# Altium schematic symbol library Sheye-Resistor.SchLib: 584 symbols (part 2 of 3)
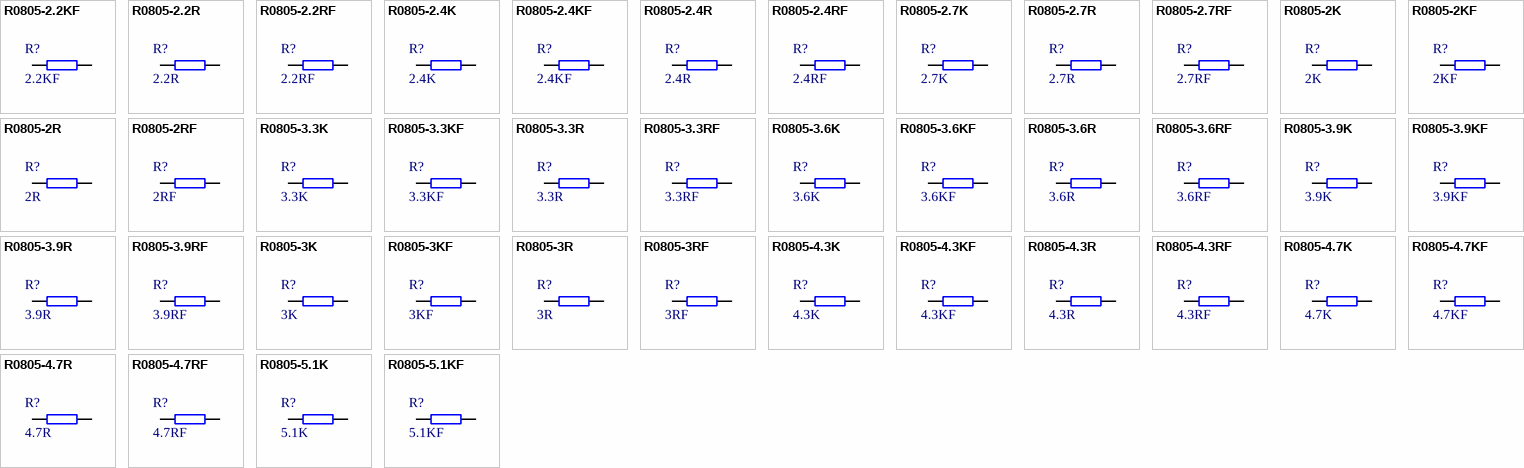
[diagram p15: symbols R0805-2.2KF to R0805-5.1KF]

## R0805-2.4R
designator R?, comment 2.4R
贴片电阻-通用; 生产商: 厚声 国巨; 规格型号: 2.4R±5%_1/8W_±200ppm_R0805; 货品编码: 无样品无编码; 备注: *; 供应商: *
footprint R0805 (Footprint not found)
pins: 1, 2

## R0805-2.4RF
designator R?, comment 2.4RF
贴片电阻-通用; 生产商: 厚声 国巨; 规格型号: 2.4R±1%_1/8W_±200ppm_R0805; 货品编码: 无样品无编码; 备注: *; 供应商: *
footprint R0805 (Footprint not found)
pins: 1, 2

## R0805-2.7K
designator R?, comment 2.7K
贴片电阻-通用; 生产商: 厚声 国巨; 规格型号: 2.7K±5%_1/8W_±100ppm_R0805; 货品编码: 311028; 备注: *; 供应商: *
footprint R0805 (Footprint not found)
pins: 1, 2

## R0805-2.7R
designator R?, comment 2.7R
贴片电阻-通用; 生产商: 厚声 国巨; 规格型号: 2.7R±5%_1/8W_±200ppm_R0805; 货品编码: 无样品无编码; 备注: *; 供应商: *
footprint R0805 (Footprint not found)
pins: 1, 2

## R0805-2.7RF
designator R?, comment 2.7RF
贴片电阻-通用; 生产商: 厚声 国巨; 规格型号: 2.7R±1%_1/8W_±200ppm_R0805; 货品编码: 无样品无编码; 备注: *; 供应商: *
footprint R0805 (Footprint not found)
pins: 1, 2

## R0805-2K
designator R?, comment 2K
贴片电阻-通用; 生产商: 厚声 国巨; 规格型号: 2K±5%_1/8W_±100ppm_R0805; 货品编码: 311025; 备注: *; 供应商: *
footprint R0805 (Footprint not found)
pins: 1, 2

## R0805-2KF
designator R?, comment 2KF
贴片电阻-通用; 生产商: 厚声 国巨; 规格型号: 2K±1%_1/8W_±100ppm_R0805; 货品编码: 311026; 备注: *; 供应商: *
footprint R0805 (Footprint not found)
pins: 1, 2

## R0805-2R
designator R?, comment 2R
贴片电阻-通用; 生产商: 厚声 国巨; 规格型号: 2R±5%_1/8W_±200ppm_R0805; 货品编码: 无样品无编码; 备注: *; 供应商: *
footprint R0805 (Footprint not found)
pins: 1, 2

## R0805-2RF
designator R?, comment 2RF
贴片电阻-通用; 生产商: 厚声 国巨; 规格型号: 2R±1%_1/8W_±200ppm_R0805; 货品编码: 无样品无编码; 备注: *; 供应商: *
footprint R0805 (Footprint not found)
pins: 1, 2

## R0805-3.3K
designator R?, comment 3.3K
贴片电阻-通用; 生产商: 厚声 国巨; 规格型号: 3.3K±5%_1/8W_±100ppm_R0805; 货品编码: 311029; 备注: *; 供应商: *
footprint R0805 (Footprint not found)
pins: 1, 2

## R0805-3.3KF
designator R?, comment 3.3KF
贴片电阻-通用; 生产商: 厚声 国巨; 规格型号: 3.3K±1%_1/8W_±100ppm_R0805; 货品编码: 311030; 备注: *; 供应商: *
footprint R0805 (Footprint not found)
pins: 1, 2

## R0805-3.3R
designator R?, comment 3.3R
贴片电阻-通用; 生产商: 厚声 国巨; 规格型号: 3.3R±5%_1/8W_±200ppm_R0805; 货品编码: 311004; 备注: *; 供应商: *
footprint R0805 (Footprint not found)
pins: 1, 2

## R0805-3.3RF
designator R?, comment 3.3RF
贴片电阻-通用; 生产商: 厚声 国巨; 规格型号: 3.3R±1%_1/8W_±200ppm_R0805; 货品编码: 311058; 备注: *; 供应商: *
footprint R0805 (Footprint not found)
pins: 1, 2

## R0805-3.6K
designator R?, comment 3.6K
贴片电阻-通用; 生产商: 厚声 国巨; 规格型号: 3.6K±5%_1/8W_±100ppm_R0805; 货品编码: 无样品无编码; 备注: *; 供应商: *
footprint R0805 (Footprint not found)
pins: 1, 2

## R0805-3.6KF
designator R?, comment 3.6KF
贴片电阻-通用; 生产商: 厚声 国巨; 规格型号: 3.6K±1%_1/8W_±100ppm_R0805; 货品编码: 无样品无编码; 备注: *; 供应商: *
footprint R0805 (Footprint not found)
pins: 1, 2

## R0805-3.6R
designator R?, comment 3.6R
贴片电阻-通用; 生产商: 厚声 国巨; 规格型号: 3.6R±5%_1/8W_±200ppm_R0805; 货品编码: 无样品无编码; 备注: *; 供应商: *
footprint R0805 (Footprint not found)
pins: 1, 2

## R0805-3.6RF
designator R?, comment 3.6RF
贴片电阻-通用; 生产商: 厚声 国巨; 规格型号: 3.6R±1%_1/8W_±200ppm_R0805; 货品编码: 无样品无编码; 备注: *; 供应商: *
footprint R0805 (Footprint not found)
pins: 1, 2

## R0805-3.9K
designator R?, comment 3.9K
贴片电阻-通用; 生产商: 厚声 国巨; 规格型号: 3.9K±5%_1/8W_±100ppm_R0805; 货品编码: 无样品无编码; 备注: *; 供应商: *
footprint R0805 (Footprint not found)
pins: 1, 2

## R0805-3.9KF
designator R?, comment 3.9KF
贴片电阻-通用; 生产商: 厚声 国巨; 规格型号: 3.9K±1%_1/8W_±100ppm_R0805; 货品编码: 无样品无编码; 备注: *; 供应商: *
footprint R0805 (Footprint not found)
pins: 1, 2

## R0805-3.9R
designator R?, comment 3.9R
贴片电阻-通用; 生产商: 厚声 国巨; 规格型号: 3.9R±5%_1/8W_±200ppm_R0805; 货品编码: 无样品无编码; 备注: *; 供应商: *
footprint R0805 (Footprint not found)
pins: 1, 2

## R0805-3.9RF
designator R?, comment 3.9RF
贴片电阻-通用; 生产商: 厚声 国巨; 规格型号: 3.9R±1%_1/8W_±200ppm_R0805; 货品编码: 无样品无编码; 备注: *; 供应商: *
footprint R0805 (Footprint not found)
pins: 1, 2

## R0805-3K
designator R?, comment 3K
贴片电阻-通用; 生产商: 厚声 国巨; 规格型号: 3K±5%_1/8W_±100ppm_R0805; 货品编码: 无样品无编码; 备注: *; 供应商: *
footprint R0805 (Footprint not found)
pins: 1, 2

## R0805-3KF
designator R?, comment 3KF
贴片电阻-通用; 生产商: 厚声 国巨; 规格型号: 3K±1%_1/8W_±100ppm_R0805; 货品编码: 311042; 备注: *; 供应商: *
footprint R0805 (Footprint not found)
pins: 1, 2

## R0805-3R
designator R?, comment 3R
贴片电阻-通用; 生产商: 厚声 国巨; 规格型号: 3R±5%_1/8W_±200ppm_R0805; 货品编码: 无样品无编码; 备注: *; 供应商: *
footprint R0805 (Footprint not found)
pins: 1, 2

## R0805-3RF
designator R?, comment 3RF
贴片电阻-通用; 生产商: 厚声 国巨; 规格型号: 3R±1%_1/8W_±200ppm_R0805; 货品编码: 无样品无编码; 备注: *; 供应商: *
footprint R0805 (Footprint not found)
pins: 1, 2

## R0805-4.3K
designator R?, comment 4.3K
贴片电阻-通用; 生产商: 厚声 国巨; 规格型号: 4.3K±5%_1/8W_±100ppm_R0805; 货品编码: 无样品无编码; 备注: *; 供应商: *
footprint R0805 (Footprint not found)
pins: 1, 2

## R0805-4.3KF
designator R?, comment 4.3KF
贴片电阻-通用; 生产商: 厚声 国巨; 规格型号: 4.3K±1%_1/8W_±100ppm_R0805; 货品编码: 无样品无编码; 备注: *; 供应商: *
footprint R0805 (Footprint not found)
pins: 1, 2

## R0805-4.3R
designator R?, comment 4.3R
贴片电阻-通用; 生产商: 厚声 国巨; 规格型号: 4.3R±5%_1/8W_±200ppm_R0805; 货品编码: 无样品无编码; 备注: *; 供应商: *
footprint R0805 (Footprint not found)
pins: 1, 2

## R0805-4.3RF
designator R?, comment 4.3RF
贴片电阻-通用; 生产商: 厚声 国巨; 规格型号: 4.3R±1%_1/8W_±200ppm_R0805; 货品编码: 无样品无编码; 备注: *; 供应商: *
footprint R0805 (Footprint not found)
pins: 1, 2

## R0805-4.7K
designator R?, comment 4.7K
贴片电阻-通用; 生产商: 厚声 国巨; 规格型号: 4.7K±5%_1/8W_±100ppm_R0805; 货品编码: 311031; 备注: *; 供应商: *
footprint R0805 (Footprint not found)
pins: 1, 2

## R0805-4.7KF
designator R?, comment 4.7KF
贴片电阻-通用; 生产商: 厚声 国巨; 规格型号: 4.7K±1%_1/8W_±100ppm_R0805; 货品编码: 311032; 备注: *; 供应商: *
footprint R0805 (Footprint not found)
pins: 1, 2

## R0805-4.7R
designator R?, comment 4.7R
贴片电阻-通用; 生产商: 厚声 国巨; 规格型号: 4.7R±5%_1/8W_±200ppm_R0805; 货品编码: 无样品无编码; 备注: *; 供应商: *
footprint R0805 (Footprint not found)
pins: 1, 2

## R0805-4.7RF
designator R?, comment 4.7RF
贴片电阻-通用; 生产商: 厚声 国巨; 规格型号: 4.7R±1%_1/8W_±200ppm_R0805; 货品编码: 无样品无编码; 备注: *; 供应商: *
footprint R0805 (Footprint not found)
pins: 1, 2

## R0805-5.1K
designator R?, comment 5.1K
贴片电阻-通用; 生产商: 厚声 国巨; 规格型号: 5.1K±5%_1/8W_±100ppm_R0805; 货品编码: 311033; 备注: *; 供应商: *
footprint R0805 (Footprint not found)
pins: 1, 2

## R0805-5.1KF
designator R?, comment 5.1KF
贴片电阻-通用; 生产商: 厚声 国巨; 规格型号: 5.1K±1%_1/8W_±100ppm_R0805; 货品编码: 311043; 备注: *; 供应商: *
footprint R0805 (Footprint not found)
pins: 1, 2

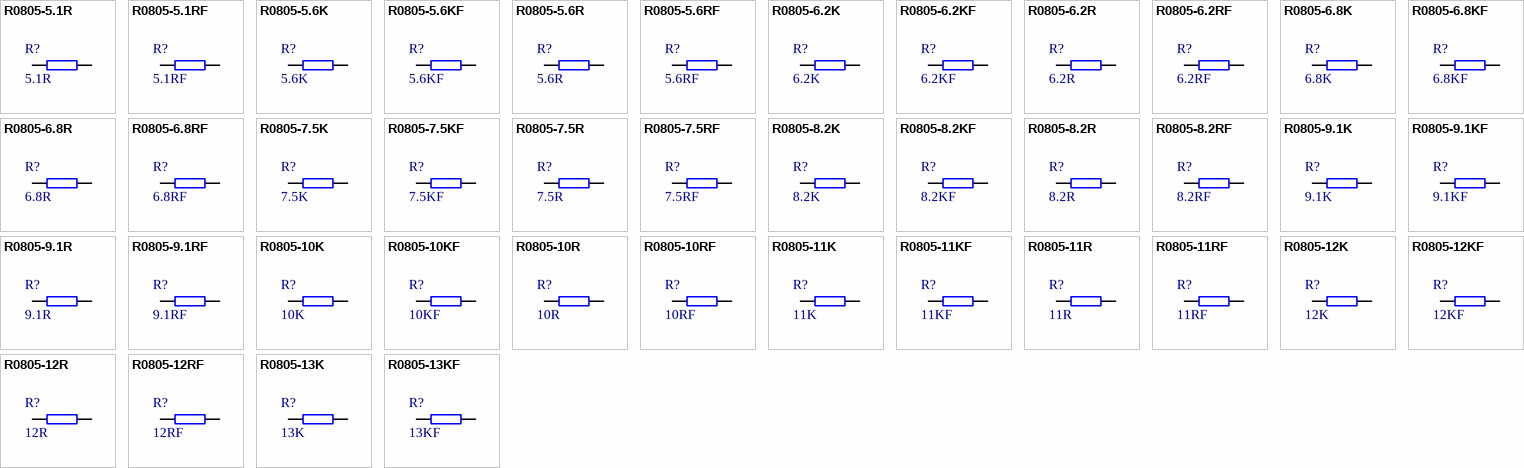
[diagram p7: symbols R0805-5.1R to R0805-13KF]

## R0805-5.1R
designator R?, comment 5.1R
贴片电阻-通用; 生产商: 厚声 国巨; 规格型号: 5.1R±5%_1/8W_±200ppm_R0805; 货品编码: 无样品无编码; 备注: *; 供应商: *
footprint R0805 (Footprint not found)
pins: 1, 2

## R0805-5.1RF
designator R?, comment 5.1RF
贴片电阻-通用; 生产商: 厚声 国巨; 规格型号: 5.1R±1%_1/8W_±200ppm_R0805; 货品编码: 无样品无编码; 备注: *; 供应商: *
footprint R0805 (Footprint not found)
pins: 1, 2

## R0805-5.6K
designator R?, comment 5.6K
贴片电阻-通用; 生产商: 厚声 国巨; 规格型号: 5.6K±5%_1/8W_±100ppm_R0805; 货品编码: 无样品无编码; 备注: *; 供应商: *
footprint R0805 (Footprint not found)
pins: 1, 2

## R0805-5.6KF
designator R?, comment 5.6KF
贴片电阻-通用; 生产商: 厚声 国巨; 规格型号: 5.6K±1%_1/8W_±100ppm_R0805; 货品编码: 无样品无编码; 备注: *; 供应商: *
footprint R0805 (Footprint not found)
pins: 1, 2

## R0805-5.6R
designator R?, comment 5.6R
贴片电阻-通用; 生产商: 厚声 国巨; 规格型号: 5.6R±5%_1/8W_±200ppm_R0805; 货品编码: 无样品无编码; 备注: *; 供应商: *
footprint R0805 (Footprint not found)
pins: 1, 2

## R0805-5.6RF
designator R?, comment 5.6RF
贴片电阻-通用; 生产商: 厚声 国巨; 规格型号: 5.6R±1%_1/8W_±200ppm_R0805; 货品编码: 无样品无编码; 备注: *; 供应商: *
footprint R0805 (Footprint not found)
pins: 1, 2

## R0805-6.2K
designator R?, comment 6.2K
贴片电阻-通用; 生产商: 厚声 国巨; 规格型号: 6.2K±5%_1/8W_±100ppm_R0805; 货品编码: 无样品无编码; 备注: *; 供应商: *
footprint R0805 (Footprint not found)
pins: 1, 2

## R0805-6.2KF
designator R?, comment 6.2KF
贴片电阻-通用; 生产商: 厚声 国巨; 规格型号: 6.2K±1%_1/8W_±100ppm_R0805; 货品编码: 无样品无编码; 备注: *; 供应商: *
footprint R0805 (Footprint not found)
pins: 1, 2

## R0805-6.2R
designator R?, comment 6.2R
贴片电阻-通用; 生产商: 厚声 国巨; 规格型号: 6.2R±5%_1/8W_±200ppm_R0805; 货品编码: 无样品无编码; 备注: *; 供应商: *
footprint R0805 (Footprint not found)
pins: 1, 2

## R0805-6.2RF
designator R?, comment 6.2RF
贴片电阻-通用; 生产商: 厚声 国巨; 规格型号: 6.2R±1%_1/8W_±200ppm_R0805; 货品编码: 无样品无编码; 备注: *; 供应商: *
footprint R0805 (Footprint not found)
pins: 1, 2

## R0805-6.8K
designator R?, comment 6.8K
贴片电阻-通用; 生产商: 厚声 国巨; 规格型号: 6.8K±5%_1/8W_±100ppm_R0805; 货品编码: 无样品无编码; 备注: *; 供应商: *
footprint R0805 (Footprint not found)
pins: 1, 2

## R0805-6.8KF
designator R?, comment 6.8KF
贴片电阻-通用; 生产商: 厚声 国巨; 规格型号: 6.8K±1%_1/8W_±100ppm_R0805; 货品编码: 311044; 备注: *; 供应商: *
footprint R0805 (Footprint not found)
pins: 1, 2

## R0805-6.8R
designator R?, comment 6.8R
贴片电阻-通用; 生产商: 厚声 国巨; 规格型号: 6.8R±5%_1/8W_±200ppm_R0805; 货品编码: 无样品无编码; 备注: *; 供应商: *
footprint R0805 (Footprint not found)
pins: 1, 2

## R0805-6.8RF
designator R?, comment 6.8RF
贴片电阻-通用; 生产商: 厚声 国巨; 规格型号: 6.8R±1%_1/8W_±200ppm_R0805; 货品编码: 311156; 备注: *; 供应商: *
footprint R0805 (Footprint not found)
pins: 1, 2

## R0805-7.5K
designator R?, comment 7.5K
贴片电阻-通用; 生产商: 厚声 国巨; 规格型号: 7.5K±5%_1/8W_±100ppm_R0805; 货品编码: 无样品无编码; 备注: *; 供应商: *
footprint R0805 (Footprint not found)
pins: 1, 2

## R0805-7.5KF
designator R?, comment 7.5KF
贴片电阻-通用; 生产商: 厚声 国巨; 规格型号: 7.5K±1%_1/8W_±100ppm_R0805; 货品编码: 311160; 备注: *; 供应商: *
footprint R0805 (Footprint not found)
pins: 1, 2

## R0805-7.5R
designator R?, comment 7.5R
贴片电阻-通用; 生产商: 厚声 国巨; 规格型号: 7.5R±5%_1/8W_±200ppm_R0805; 货品编码: 无样品无编码; 备注: *; 供应商: *
footprint R0805 (Footprint not found)
pins: 1, 2

## R0805-7.5RF
designator R?, comment 7.5RF
贴片电阻-通用; 生产商: 厚声 国巨; 规格型号: 7.5R±1%_1/8W_±200ppm_R0805; 货品编码: 无样品无编码; 备注: *; 供应商: *
footprint R0805 (Footprint not found)
pins: 1, 2

## R0805-8.2K
designator R?, comment 8.2K
贴片电阻-通用; 生产商: 厚声 国巨; 规格型号: 8.2K±5%_1/8W_±100ppm_R0805; 货品编码: 无样品无编码; 备注: *; 供应商: *
footprint R0805 (Footprint not found)
pins: 1, 2

## R0805-8.2KF
designator R?, comment 8.2KF
贴片电阻-通用; 生产商: 厚声 国巨; 规格型号: 8.2K±1%_1/8W_±100ppm_R0805; 货品编码: 无样品无编码; 备注: *; 供应商: *
footprint R0805 (Footprint not found)
pins: 1, 2

## R0805-8.2R
designator R?, comment 8.2R
贴片电阻-通用; 生产商: 厚声 国巨; 规格型号: 8.2R±5%_1/8W_±200ppm_R0805; 货品编码: 无样品无编码; 备注: *; 供应商: *
footprint R0805 (Footprint not found)
pins: 1, 2

## R0805-8.2RF
designator R?, comment 8.2RF
贴片电阻-通用; 生产商: 厚声 国巨; 规格型号: 8.2R±1%_1/8W_±200ppm_R0805; 货品编码: 无样品无编码; 备注: *; 供应商: *
footprint R0805 (Footprint not found)
pins: 1, 2

## R0805-9.1K
designator R?, comment 9.1K
贴片电阻-通用; 生产商: 厚声 国巨; 规格型号: 9.1K±5%_1/8W_±100ppm_R0805; 货品编码: 无样品无编码; 备注: *; 供应商: *
footprint R0805 (Footprint not found)
pins: 1, 2

## R0805-9.1KF
designator R?, comment 9.1KF
贴片电阻-通用; 生产商: 厚声 国巨; 规格型号: 9.1K±1%_1/8W_±100ppm_R0805; 货品编码: 311035; 备注: *; 供应商: *
footprint R0805 (Footprint not found)
pins: 1, 2

## R0805-9.1R
designator R?, comment 9.1R
贴片电阻-通用; 生产商: 厚声 国巨; 规格型号: 9.1R±5%_1/8W_±200ppm_R0805; 货品编码: 无样品无编码; 备注: *; 供应商: *
footprint R0805 (Footprint not found)
pins: 1, 2

## R0805-9.1RF
designator R?, comment 9.1RF
贴片电阻-通用; 生产商: 厚声 国巨; 规格型号: 9.1R±1%_1/8W_±200ppm_R0805; 货品编码: 无样品无编码; 备注: *; 供应商: *
footprint R0805 (Footprint not found)
pins: 1, 2

## R0805-10K
designator R?, comment 10K
贴片电阻-通用; 生产商: 厚声 国巨; 规格型号: 10K±5%_1/8W_±100ppm_R0805; 货品编码: 311037; 备注: *; 供应商: *
footprint R0805 (Footprint not found)
pins: 1, 2

## R0805-10KF
designator R?, comment 10KF
贴片电阻-通用; 生产商: 厚声 国巨; 规格型号: 10K±1%_1/8W_±100ppm_R0805; 货品编码: 311045; 备注: *; 供应商: *
footprint R0805 (Footprint not found)
pins: 1, 2

## R0805-10R
designator R?, comment 10R
贴片电阻-通用; 生产商: 厚声 国巨; 规格型号: 10R±5%_1/8W_±200ppm_R0805; 货品编码: 311006; 备注: *; 供应商: *
footprint R0805 (Footprint not found)
pins: 1, 2

## R0805-10RF
designator R?, comment 10RF
贴片电阻-通用; 生产商: 厚声 国巨; 规格型号: 10R±1%_1/8W_±200ppm_R0805; 货品编码: 无样品无编码; 备注: *; 供应商: *
footprint R0805 (Footprint not found)
pins: 1, 2

## R0805-11K
designator R?, comment 11K
贴片电阻-通用; 生产商: 厚声 国巨; 规格型号: 11K±5%_1/8W_±100ppm_R0805; 货品编码: 无样品无编码; 备注: *; 供应商: *
footprint R0805 (Footprint not found)
pins: 1, 2

## R0805-11KF
designator R?, comment 11KF
贴片电阻-通用; 生产商: 厚声 国巨; 规格型号: 11K±1%_1/8W_±100ppm_R0805; 货品编码: 无样品无编码; 备注: *; 供应商: *
footprint R0805 (Footprint not found)
pins: 1, 2

## R0805-11R
designator R?, comment 11R
贴片电阻-通用; 生产商: 厚声 国巨; 规格型号: 11R±5%_1/8W_±100ppm_R0805; 货品编码: 无样品无编码; 备注: *; 供应商: *
footprint R0805 (Footprint not found)
pins: 1, 2

## R0805-11RF
designator R?, comment 11RF
贴片电阻-通用; 生产商: 厚声 国巨; 规格型号: 11R±1%_1/8W_±100ppm_R0805; 货品编码: 无样品无编码; 备注: *; 供应商: *
footprint R0805 (Footprint not found)
pins: 1, 2

## R0805-12K
designator R?, comment 12K
贴片电阻-通用; 生产商: 厚声 国巨; 规格型号: 12K±5%_1/8W_±100ppm_R0805; 货品编码: 无样品无编码; 备注: *; 供应商: *
footprint R0805 (Footprint not found)
pins: 1, 2

## R0805-12KF
designator R?, comment 12KF
贴片电阻-通用; 生产商: 厚声 国巨; 规格型号: 12K±1%_1/8W_±100ppm_R0805; 货品编码: 无样品无编码; 备注: *; 供应商: *
footprint R0805 (Footprint not found)
pins: 1, 2

## R0805-12R
designator R?, comment 12R
贴片电阻-通用; 生产商: 厚声 国巨; 规格型号: 12R±5%_1/8W_±100ppm_R0805; 货品编码: 无样品无编码; 备注: *; 供应商: *
footprint R0805 (Footprint not found)
pins: 1, 2

## R0805-12RF
designator R?, comment 12RF
贴片电阻-通用; 生产商: 厚声 国巨; 规格型号: 12R±1%_1/8W_±100ppm_R0805; 货品编码: 无样品无编码; 备注: *; 供应商: *
footprint R0805 (Footprint not found)
pins: 1, 2

## R0805-13K
designator R?, comment 13K
贴片电阻-通用; 生产商: 厚声 国巨; 规格型号: 13K±5%_1/8W_±100ppm_R0805; 货品编码: 无样品无编码; 备注: *; 供应商: *
footprint R0805 (Footprint not found)
pins: 1, 2

## R0805-13KF
designator R?, comment 13KF
贴片电阻-通用; 生产商: 厚声 国巨; 规格型号: 13K±1%_1/8W_±100ppm_R0805; 货品编码: 311036; 备注: *; 供应商: *
footprint R0805 (Footprint not found)
pins: 1, 2

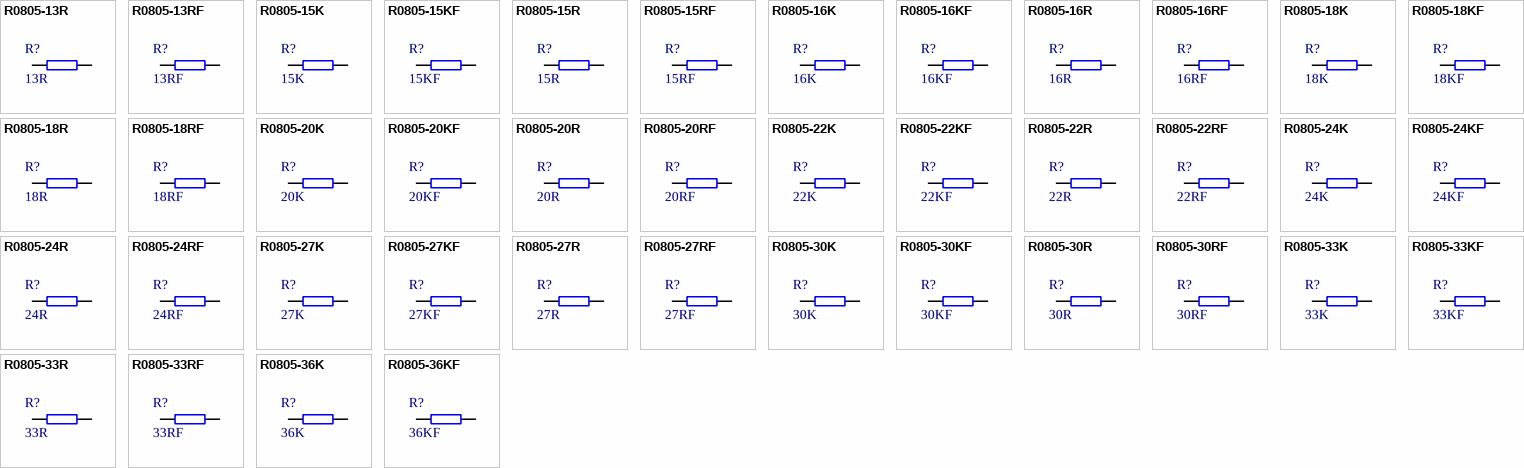
[diagram p8: symbols R0805-13R to R0805-36KF]

## R0805-13R
designator R?, comment 13R
贴片电阻-通用; 生产商: 厚声 国巨; 规格型号: 13R±5%_1/8W_±100ppm_R0805; 货品编码: 无样品无编码; 备注: *; 供应商: *
footprint R0805 (Footprint not found)
pins: 1, 2

## R0805-13RF
designator R?, comment 13RF
贴片电阻-通用; 生产商: 厚声 国巨; 规格型号: 13R±1%_1/8W_±100ppm_R0805; 货品编码: 无样品无编码; 备注: *; 供应商: *
footprint R0805 (Footprint not found)
pins: 1, 2

## R0805-15K
designator R?, comment 15K
贴片电阻-通用; 生产商: 厚声 国巨; 规格型号: 15K±5%_1/8W_±100ppm_R0805; 货品编码: 无样品无编码; 备注: *; 供应商: *
footprint R0805 (Footprint not found)
pins: 1, 2

## R0805-15KF
designator R?, comment 15KF
贴片电阻-通用; 生产商: 厚声 国巨; 规格型号: 15K±1%_1/8W_±100ppm_R0805; 货品编码: 311046; 备注: *; 供应商: *
footprint R0805 (Footprint not found)
pins: 1, 2

## R0805-15R
designator R?, comment 15R
贴片电阻-通用; 生产商: 厚声 国巨; 规格型号: 15R±5%_1/8W_±100ppm_R0805; 货品编码: 311005; 备注: *; 供应商: *
footprint R0805 (Footprint not found)
pins: 1, 2

## R0805-15RF
designator R?, comment 15RF
贴片电阻-通用; 生产商: 厚声 国巨; 规格型号: 15R±1%_1/8W_±100ppm_R0805; 货品编码: 无样品无编码; 备注: *; 供应商: *
footprint R0805 (Footprint not found)
pins: 1, 2

## R0805-16K
designator R?, comment 16K
贴片电阻-通用; 生产商: 厚声 国巨; 规格型号: 16K±5%_1/8W_±100ppm_R0805; 货品编码: 无样品无编码; 备注: *; 供应商: *
footprint R0805 (Footprint not found)
pins: 1, 2

## R0805-16KF
designator R?, comment 16KF
贴片电阻-通用; 生产商: 厚声 国巨; 规格型号: 16K±1%_1/8W_±100ppm_R0805; 货品编码: 无样品无编码; 备注: *; 供应商: *
footprint R0805 (Footprint not found)
pins: 1, 2

## R0805-16R
designator R?, comment 16R
贴片电阻-通用; 生产商: 厚声 国巨; 规格型号: 16R±5%_1/8W_±100ppm_R0805; 货品编码: 无样品无编码; 备注: *; 供应商: *
footprint R0805 (Footprint not found)
pins: 1, 2

## R0805-16RF
designator R?, comment 16RF
贴片电阻-通用; 生产商: 厚声 国巨; 规格型号: 16R±1%_1/8W_±100ppm_R0805; 货品编码: 无样品无编码; 备注: *; 供应商: *
footprint R0805 (Footprint not found)
pins: 1, 2

## R0805-18K
designator R?, comment 18K
贴片电阻-通用; 生产商: 厚声 国巨; 规格型号: 18K±5%_1/8W_±100ppm_R0805; 货品编码: 无样品无编码; 备注: *; 供应商: *
footprint R0805 (Footprint not found)
pins: 1, 2

## R0805-18KF
designator R?, comment 18KF
贴片电阻-通用; 生产商: 厚声 国巨; 规格型号: 18K±1%_1/8W_±100ppm_R0805; 货品编码: 无样品无编码; 备注: *; 供应商: *
footprint R0805 (Footprint not found)
pins: 1, 2

## R0805-18R
designator R?, comment 18R
贴片电阻-通用; 生产商: 厚声 国巨; 规格型号: 18R±5%_1/8W_±100ppm_R0805; 货品编码: 无样品无编码; 备注: *; 供应商: *
footprint R0805 (Footprint not found)
pins: 1, 2

## R0805-18RF
designator R?, comment 18RF
贴片电阻-通用; 生产商: 厚声 国巨; 规格型号: 18R±1%_1/8W_±100ppm_R0805; 货品编码: 311055; 备注: *; 供应商: *
footprint R0805 (Footprint not found)
pins: 1, 2

## R0805-20K
designator R?, comment 20K
贴片电阻-通用; 生产商: 厚声 国巨; 规格型号: 20K±5%_1/8W_±100ppm_R0805; 货品编码: 无样品无编码; 备注: *; 供应商: *
footprint R0805 (Footprint not found)
pins: 1, 2

## R0805-20KF
designator R?, comment 20KF
贴片电阻-通用; 生产商: 厚声 国巨; 规格型号: 20K±1%_1/8W_±100ppm_R0805; 货品编码: 311047; 备注: *; 供应商: *
footprint R0805 (Footprint not found)
pins: 1, 2

## R0805-20R
designator R?, comment 20R
贴片电阻-通用; 生产商: 厚声 国巨; 规格型号: 20R±5%_1/8W_±100ppm_R0805; 货品编码: 无样品无编码; 备注: *; 供应商: *
footprint R0805 (Footprint not found)
pins: 1, 2

## R0805-20RF
designator R?, comment 20RF
贴片电阻-通用; 生产商: 厚声 国巨; 规格型号: 20R±1%_1/8W_±100ppm_R0805; 货品编码: 无样品无编码; 备注: *; 供应商: *
footprint R0805 (Footprint not found)
pins: 1, 2

## R0805-22K
designator R?, comment 22K
贴片电阻-通用; 生产商: 厚声 国巨; 规格型号: 22K±5%_1/8W_±100ppm_R0805; 货品编码: 无样品无编码; 备注: *; 供应商: *
footprint R0805 (Footprint not found)
pins: 1, 2

## R0805-22KF
designator R?, comment 22KF
贴片电阻-通用; 生产商: 厚声 国巨; 规格型号: 22K±1%_1/8W_±100ppm_R0805; 货品编码: 无样品无编码; 备注: *; 供应商: *
footprint R0805 (Footprint not found)
pins: 1, 2

## R0805-22R
designator R?, comment 22R
贴片电阻-通用; 生产商: 厚声 国巨; 规格型号: 22R±5%_1/8W_±100ppm_R0805; 货品编码: 无样品无编码; 备注: *; 供应商: *
footprint R0805 (Footprint not found)
pins: 1, 2

## R0805-22RF
designator R?, comment 22RF
贴片电阻-通用; 生产商: 厚声 国巨; 规格型号: 22R±1%_1/8W_±100ppm_R0805; 货品编码: 311093; 备注: *; 供应商: *
footprint R0805 (Footprint not found)
pins: 1, 2

## R0805-24K
designator R?, comment 24K
贴片电阻-通用; 生产商: 厚声 国巨; 规格型号: 24K±5%_1/8W_±100ppm_R0805; 货品编码: 无样品无编码; 备注: *; 供应商: *
footprint R0805 (Footprint not found)
pins: 1, 2

## R0805-24KF
designator R?, comment 24KF
贴片电阻-通用; 生产商: 厚声 国巨; 规格型号: 24K±1%_1/8W_±100ppm_R0805; 货品编码: 无样品无编码; 备注: *; 供应商: *
footprint R0805 (Footprint not found)
pins: 1, 2

## R0805-24R
designator R?, comment 24R
贴片电阻-通用; 生产商: 厚声 国巨; 规格型号: 24R±5%_1/8W_±100ppm_R0805; 货品编码: 无样品无编码; 备注: *; 供应商: *
footprint R0805 (Footprint not found)
pins: 1, 2

## R0805-24RF
designator R?, comment 24RF
贴片电阻-通用; 生产商: 厚声 国巨; 规格型号: 24R±1%_1/8W_±100ppm_R0805; 货品编码: 无样品无编码; 备注: *; 供应商: *
footprint R0805 (Footprint not found)
pins: 1, 2

## R0805-27K
designator R?, comment 27K
贴片电阻-通用; 生产商: 厚声 国巨; 规格型号: 27K±5%_1/8W_±100ppm_R0805; 货品编码: 无样品无编码; 备注: *; 供应商: *
footprint R0805 (Footprint not found)
pins: 1, 2

## R0805-27KF
designator R?, comment 27KF
贴片电阻-通用; 生产商: 厚声 国巨; 规格型号: 27K±1%_1/8W_±100ppm_R0805; 货品编码: 311048; 备注: *; 供应商: *
footprint R0805 (Footprint not found)
pins: 1, 2

## R0805-27R
designator R?, comment 27R
贴片电阻-通用; 生产商: 厚声 国巨; 规格型号: 27R±5%_1/8W_±100ppm_R0805; 货品编码: 无样品无编码; 备注: *; 供应商: *
footprint R0805 (Footprint not found)
pins: 1, 2

## R0805-27RF
designator R?, comment 27RF
贴片电阻-通用; 生产商: 厚声 国巨; 规格型号: 27R±1%_1/8W_±100ppm_R0805; 货品编码: 311158; 备注: *; 供应商: *
footprint R0805 (Footprint not found)
pins: 1, 2

## R0805-30K
designator R?, comment 30K
贴片电阻-通用; 生产商: 厚声 国巨; 规格型号: 30K±5%_1/8W_±100ppm_R0805; 货品编码: 311039; 备注: *; 供应商: *
footprint R0805 (Footprint not found)
pins: 1, 2

## R0805-30KF
designator R?, comment 30KF
贴片电阻-通用; 生产商: 厚声 国巨; 规格型号: 30K±1%_1/8W_±100ppm_R0805; 货品编码: 无样品无编码; 备注: *; 供应商: *
footprint R0805 (Footprint not found)
pins: 1, 2

## R0805-30R
designator R?, comment 30R
贴片电阻-通用; 生产商: 厚声 国巨; 规格型号: 30R±5%_1/8W_±100ppm_R0805; 货品编码: 无样品无编码; 备注: *; 供应商: *
footprint R0805 (Footprint not found)
pins: 1, 2

## R0805-30RF
designator R?, comment 30RF
贴片电阻-通用; 生产商: 厚声 国巨; 规格型号: 30R±1%_1/8W_±100ppm_R0805; 货品编码: 无样品无编码; 备注: *; 供应商: *
footprint R0805 (Footprint not found)
pins: 1, 2

## R0805-33K
designator R?, comment 33K
贴片电阻-通用; 生产商: 厚声 国巨; 规格型号: 33K±5%_1/8W_±100ppm_R0805; 货品编码: 无样品无编码; 备注: *; 供应商: *
footprint R0805 (Footprint not found)
pins: 1, 2

## R0805-33KF
designator R?, comment 33KF
贴片电阻-通用; 生产商: 厚声 国巨; 规格型号: 33K±1%_1/8W_±100ppm_R0805; 货品编码: 无样品无编码; 备注: *; 供应商: *
footprint R0805 (Footprint not found)
pins: 1, 2

## R0805-33R
designator R?, comment 33R
贴片电阻-通用; 生产商: 厚声 国巨; 规格型号: 33R±5%_1/8W_±100ppm_R0805; 货品编码: 311008; 备注: *; 供应商: *
footprint R0805 (Footprint not found)
pins: 1, 2

## R0805-33RF
designator R?, comment 33RF
贴片电阻-通用; 生产商: 厚声 国巨; 规格型号: 33R±1%_1/8W_±100ppm_R0805; 货品编码: 无样品无编码; 备注: *; 供应商: *
footprint R0805 (Footprint not found)
pins: 1, 2

## R0805-36K
designator R?, comment 36K
贴片电阻-通用; 生产商: 厚声 国巨; 规格型号: 36K±5%_1/8W_±100ppm_R0805; 货品编码: 无样品无编码; 备注: *; 供应商: *
footprint R0805 (Footprint not found)
pins: 1, 2

## R0805-36KF
designator R?, comment 36KF
贴片电阻-通用; 生产商: 厚声 国巨; 规格型号: 36K±1%_1/8W_±100ppm_R0805; 货品编码: 311049; 备注: *; 供应商: *
footprint R0805 (Footprint not found)
pins: 1, 2

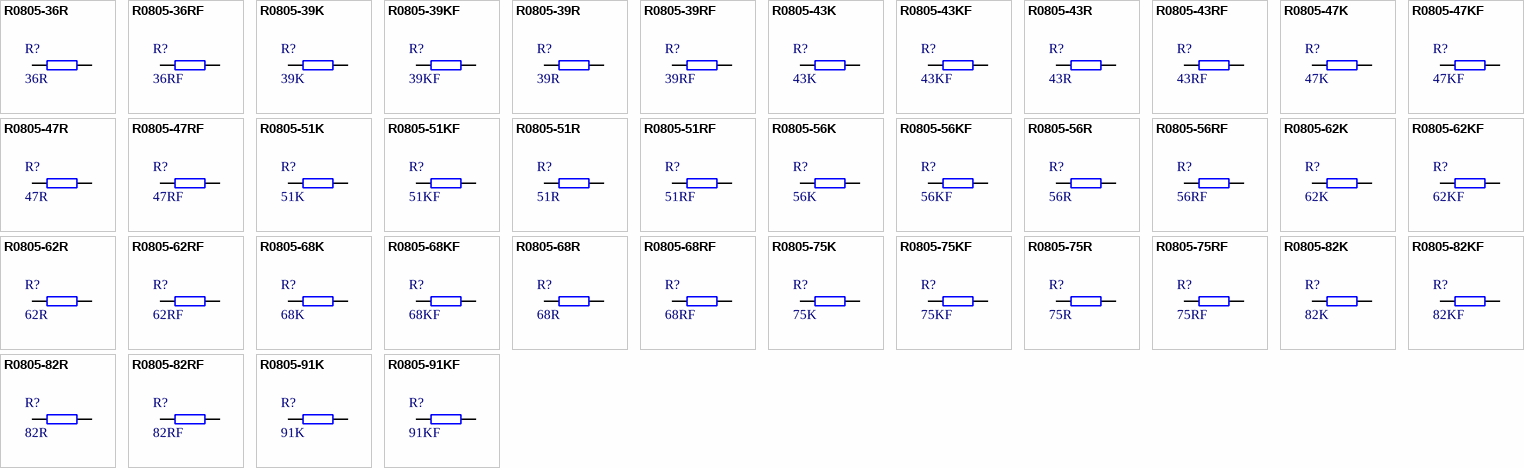
[diagram p9: symbols R0805-36R to R0805-91KF]

## R0805-36R
designator R?, comment 36R
贴片电阻-通用; 生产商: 厚声 国巨; 规格型号: 36R±5%_1/8W_±100ppm_R0805; 货品编码: 无样品无编码; 备注: *; 供应商: *
footprint R0805 (Footprint not found)
pins: 1, 2

## R0805-36RF
designator R?, comment 36RF
贴片电阻-通用; 生产商: 厚声 国巨; 规格型号: 36R±1%_1/8W_±100ppm_R0805; 货品编码: 无样品无编码; 备注: *; 供应商: *
footprint R0805 (Footprint not found)
pins: 1, 2

## R0805-39K
designator R?, comment 39K
贴片电阻-通用; 生产商: 厚声 国巨; 规格型号: 39K±5%_1/8W_±100ppm_R0805; 货品编码: 无样品无编码; 备注: *; 供应商: *
footprint R0805 (Footprint not found)
pins: 1, 2

## R0805-39KF
designator R?, comment 39KF
贴片电阻-通用; 生产商: 厚声 国巨; 规格型号: 39K±1%_1/8W_±100ppm_R0805; 货品编码: 311155; 备注: *; 供应商: *
footprint R0805 (Footprint not found)
pins: 1, 2

## R0805-39R
designator R?, comment 39R
贴片电阻-通用; 生产商: 厚声 国巨; 规格型号: 39R±5%_1/8W_±100ppm_R0805; 货品编码: 无样品无编码; 备注: *; 供应商: *
footprint R0805 (Footprint not found)
pins: 1, 2

## R0805-39RF
designator R?, comment 39RF
贴片电阻-通用; 生产商: 厚声 国巨; 规格型号: 39R±1%_1/8W_±100ppm_R0805; 货品编码: 无样品无编码; 备注: *; 供应商: *
footprint R0805 (Footprint not found)
pins: 1, 2

## R0805-43K
designator R?, comment 43K
贴片电阻-通用; 生产商: 厚声 国巨; 规格型号: 43K±5%_1/8W_±100ppm_R0805; 货品编码: 无样品无编码; 备注: *; 供应商: *
footprint R0805 (Footprint not found)
pins: 1, 2

## R0805-43KF
designator R?, comment 43KF
贴片电阻-通用; 生产商: 厚声 国巨; 规格型号: 43K±1%_1/8W_±100ppm_R0805; 货品编码: 无样品无编码; 备注: *; 供应商: *
footprint R0805 (Footprint not found)
pins: 1, 2

## R0805-43R
designator R?, comment 43R
贴片电阻-通用; 生产商: 厚声 国巨; 规格型号: 43R±5%_1/8W_±100ppm_R0805; 货品编码: 无样品无编码; 备注: *; 供应商: *
footprint R0805 (Footprint not found)
pins: 1, 2

## R0805-43RF
designator R?, comment 43RF
贴片电阻-通用; 生产商: 厚声 国巨; 规格型号: 43R±1%_1/8W_±100ppm_R0805; 货品编码: 无样品无编码; 备注: *; 供应商: *
footprint R0805 (Footprint not found)
pins: 1, 2

## R0805-47K
designator R?, comment 47K
贴片电阻-通用; 生产商: 厚声 国巨; 规格型号: 47K±5%_1/8W_±100ppm_R0805; 货品编码: 无样品无编码; 备注: *; 供应商: *
footprint R0805 (Footprint not found)
pins: 1, 2

## R0805-47KF
designator R?, comment 47KF
贴片电阻-通用; 生产商: 厚声 国巨; 规格型号: 47K±1%_1/8W_±100ppm_R0805; 货品编码: 311142; 备注: *; 供应商: *
footprint R0805 (Footprint not found)
pins: 1, 2

## R0805-47R
designator R?, comment 47R
贴片电阻-通用; 生产商: 厚声 国巨; 规格型号: 47R±5%_1/8W_±100ppm_R0805; 货品编码: 无样品无编码; 备注: *; 供应商: *
footprint R0805 (Footprint not found)
pins: 1, 2

## R0805-47RF
designator R?, comment 47RF
贴片电阻-通用; 生产商: 厚声 国巨; 规格型号: 47R±1%_1/8W_±100ppm_R0805; 货品编码: 无样品无编码; 备注: *; 供应商: *
footprint R0805 (Footprint not found)
pins: 1, 2

## R0805-51K
designator R?, comment 51K
贴片电阻-通用; 生产商: 厚声 国巨; 规格型号: 51K±5%_1/8W_±100ppm_R0805; 货品编码: 无样品无编码; 备注: *; 供应商: *
footprint R0805 (Footprint not found)
pins: 1, 2

## R0805-51KF
designator R?, comment 51KF
贴片电阻-通用; 生产商: 厚声 国巨; 规格型号: 51K±1%_1/8W_±100ppm_R0805; 货品编码: 311050; 备注: *; 供应商: *
footprint R0805 (Footprint not found)
pins: 1, 2

## R0805-51R
designator R?, comment 51R
贴片电阻-通用; 生产商: 厚声 国巨; 规格型号: 51R±5%_1/8W_±100ppm_R0805; 货品编码: 无样品无编码; 备注: *; 供应商: *
footprint R0805 (Footprint not found)
pins: 1, 2

## R0805-51RF
designator R?, comment 51RF
贴片电阻-通用; 生产商: 厚声 国巨; 规格型号: 51R±1%_1/8W_±100ppm_R0805; 货品编码: 311009; 备注: *; 供应商: *
footprint R0805 (Footprint not found)
pins: 1, 2

## R0805-56K
designator R?, comment 56K
贴片电阻-通用; 生产商: 厚声 国巨; 规格型号: 56K±5%_1/8W_±100ppm_R0805; 货品编码: 无样品无编码; 备注: *; 供应商: *
footprint R0805 (Footprint not found)
pins: 1, 2

## R0805-56KF
designator R?, comment 56KF
贴片电阻-通用; 生产商: 厚声 国巨; 规格型号: 56K±1%_1/8W_±100ppm_R0805; 货品编码: 无样品无编码; 备注: *; 供应商: *
footprint R0805 (Footprint not found)
pins: 1, 2

## R0805-56R
designator R?, comment 56R
贴片电阻-通用; 生产商: 厚声 国巨; 规格型号: 56R±5%_1/8W_±100ppm_R0805; 货品编码: 无样品无编码; 备注: *; 供应商: *
footprint R0805 (Footprint not found)
pins: 1, 2

## R0805-56RF
designator R?, comment 56RF
贴片电阻-通用; 生产商: 厚声 国巨; 规格型号: 56R±1%_1/8W_±100ppm_R0805; 货品编码: 无样品无编码; 备注: *; 供应商: *
footprint R0805 (Footprint not found)
pins: 1, 2

## R0805-62K
designator R?, comment 62K
贴片电阻-通用; 生产商: 厚声 国巨; 规格型号: 62K±5%_1/8W_±100ppm_R0805; 货品编码: 无样品无编码; 备注: *; 供应商: *
footprint R0805 (Footprint not found)
pins: 1, 2

## R0805-62KF
designator R?, comment 62KF
贴片电阻-通用; 生产商: 厚声 国巨; 规格型号: 62K±1%_1/8W_±100ppm_R0805; 货品编码: 无样品无编码; 备注: *; 供应商: *
footprint R0805 (Footprint not found)
pins: 1, 2

## R0805-62R
designator R?, comment 62R
贴片电阻-通用; 生产商: 厚声 国巨; 规格型号: 62R±5%_1/8W_±100ppm_R0805; 货品编码: 无样品无编码; 备注: *; 供应商: *
footprint R0805 (Footprint not found)
pins: 1, 2

## R0805-62RF
designator R?, comment 62RF
贴片电阻-通用; 生产商: 厚声 国巨; 规格型号: 62R±1%_1/8W_±100ppm_R0805; 货品编码: 无样品无编码; 备注: *; 供应商: *
footprint R0805 (Footprint not found)
pins: 1, 2

## R0805-68K
designator R?, comment 68K
贴片电阻-通用; 生产商: 厚声 国巨; 规格型号: 68K±5%_1/8W_±100ppm_R0805; 货品编码: 无样品无编码; 备注: *; 供应商: *
footprint R0805 (Footprint not found)
pins: 1, 2

## R0805-68KF
designator R?, comment 68KF
贴片电阻-通用; 生产商: 厚声 国巨; 规格型号: 68K±1%_1/8W_±100ppm_R0805; 货品编码: 无样品无编码; 备注: *; 供应商: *
footprint R0805 (Footprint not found)
pins: 1, 2

## R0805-68R
designator R?, comment 68R
贴片电阻-通用; 生产商: 厚声 国巨; 规格型号: 68R±5%_1/8W_±100ppm_R0805; 货品编码: 无样品无编码; 备注: *; 供应商: *
footprint R0805 (Footprint not found)
pins: 1, 2

## R0805-68RF
designator R?, comment 68RF
贴片电阻-通用; 生产商: 厚声 国巨; 规格型号: 68R±1%_1/8W_±100ppm_R0805; 货品编码: 无样品无编码; 备注: *; 供应商: *
footprint R0805 (Footprint not found)
pins: 1, 2

## R0805-75K
designator R?, comment 75K
贴片电阻-通用; 生产商: 厚声 国巨; 规格型号: 75K±5%_1/8W_±100ppm_R0805; 货品编码: 无样品无编码; 备注: *; 供应商: *
footprint R0805 (Footprint not found)
pins: 1, 2

## R0805-75KF
designator R?, comment 75KF
贴片电阻-通用; 生产商: 厚声 国巨; 规格型号: 75K±1%_1/8W_±100ppm_R0805; 货品编码: 无样品无编码; 备注: *; 供应商: *
footprint R0805 (Footprint not found)
pins: 1, 2

## R0805-75R
designator R?, comment 75R
贴片电阻-通用; 生产商: 厚声 国巨; 规格型号: 75R±5%_1/8W_±100ppm_R0805; 货品编码: 无样品无编码; 备注: *; 供应商: *
footprint R0805 (Footprint not found)
pins: 1, 2

## R0805-75RF
designator R?, comment 75RF
贴片电阻-通用; 生产商: 厚声 国巨; 规格型号: 75R±1%_1/8W_±100ppm_R0805; 货品编码: 无样品无编码; 备注: *; 供应商: *
footprint R0805 (Footprint not found)
pins: 1, 2

## R0805-82K
designator R?, comment 82K
贴片电阻-通用; 生产商: 厚声 国巨; 规格型号: 82K±5%_1/8W_±100ppm_R0805; 货品编码: 无样品无编码; 备注: *; 供应商: *
footprint R0805 (Footprint not found)
pins: 1, 2

## R0805-82KF
designator R?, comment 82KF
贴片电阻-通用; 生产商: 厚声 国巨; 规格型号: 82K±1%_1/8W_±100ppm_R0805; 货品编码: 无样品无编码; 备注: *; 供应商: *
footprint R0805 (Footprint not found)
pins: 1, 2

## R0805-82R
designator R?, comment 82R
贴片电阻-通用; 生产商: 厚声 国巨; 规格型号: 82R±5%_1/8W_±100ppm_R0805; 货品编码: 无样品无编码; 备注: *; 供应商: *
footprint R0805 (Footprint not found)
pins: 1, 2

## R0805-82RF
designator R?, comment 82RF
贴片电阻-通用; 生产商: 厚声 国巨; 规格型号: 82R±1%_1/8W_±100ppm_R0805; 货品编码: 无样品无编码; 备注: *; 供应商: *
footprint R0805 (Footprint not found)
pins: 1, 2

## R0805-91K
designator R?, comment 91K
贴片电阻-通用; 生产商: 厚声 国巨; 规格型号: 91K±5%_1/8W_±100ppm_R0805; 货品编码: 无样品无编码; 备注: *; 供应商: *
footprint R0805 (Footprint not found)
pins: 1, 2

## R0805-91KF
designator R?, comment 91KF
贴片电阻-通用; 生产商: 厚声 国巨; 规格型号: 91K±1%_1/8W_±100ppm_R0805; 货品编码: 311051; 备注: *; 供应商: *
footprint R0805 (Footprint not found)
pins: 1, 2

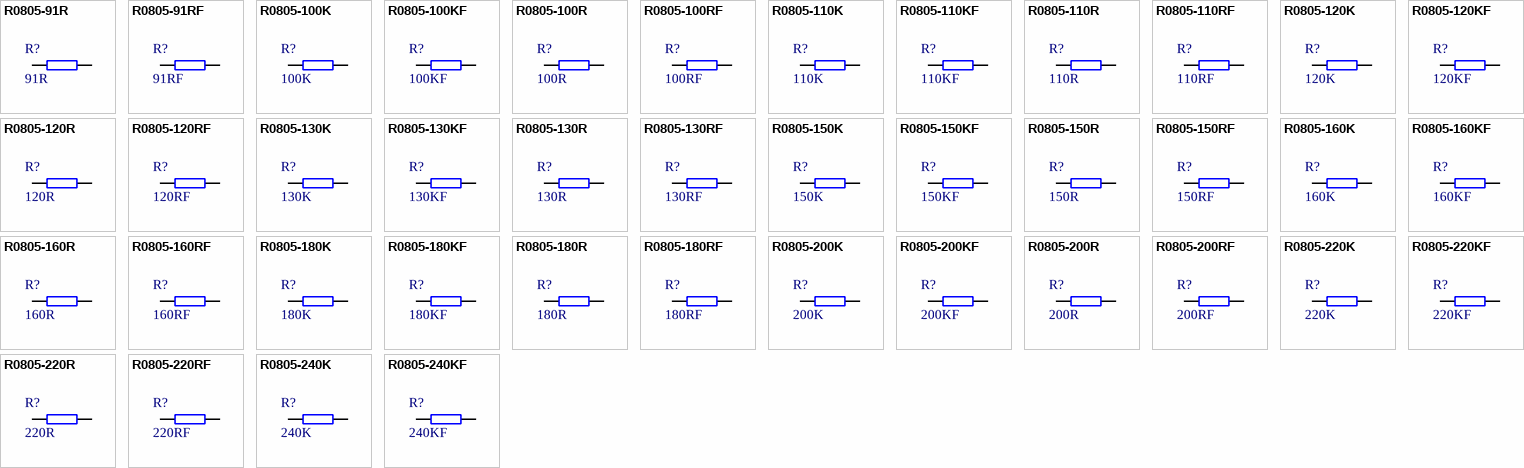
[diagram p10: symbols R0805-91R to R0805-240KF]

## R0805-91R
designator R?, comment 91R
贴片电阻-通用; 生产商: 厚声 国巨; 规格型号: 91R±5%_1/8W_±100ppm_R0805; 货品编码: 无样品无编码; 备注: *; 供应商: *
footprint R0805 (Footprint not found)
pins: 1, 2

## R0805-91RF
designator R?, comment 91RF
贴片电阻-通用; 生产商: 厚声 国巨; 规格型号: 91R±1%_1/8W_±100ppm_R0805; 货品编码: 无样品无编码; 备注: *; 供应商: *
footprint R0805 (Footprint not found)
pins: 1, 2

## R0805-100K
designator R?, comment 100K
贴片电阻-通用; 生产商: 厚声 国巨; 规格型号: 100K±5%_1/8W_±100ppm_R0805; 货品编码: 311040; 备注: *; 供应商: *
footprint R0805 (Footprint not found)
pins: 1, 2

## R0805-100KF
designator R?, comment 100KF
贴片电阻-通用; 生产商: 厚声 国巨; 规格型号: 100K±1%_1/8W_±100ppm_R0805; 货品编码: 311124; 备注: *; 供应商: *
footprint R0805 (Footprint not found)
pins: 1, 2

## R0805-100R
designator R?, comment 100R
贴片电阻-通用; 生产商: 厚声 国巨; 规格型号: 100R±5%_1/8W_±100ppm_R0805; 货品编码: 311010; 备注: *; 供应商: *
footprint R0805 (Footprint not found)
pins: 1, 2

## R0805-100RF
designator R?, comment 100RF
贴片电阻-通用; 生产商: 厚声 国巨; 规格型号: 100R±1%_1/8W_±100ppm_R0805; 货品编码: 311112; 备注: *; 供应商: *
footprint R0805 (Footprint not found)
pins: 1, 2

## R0805-110K
designator R?, comment 110K
贴片电阻-通用; 生产商: 厚声 国巨; 规格型号: 110K±5%_1/8W_±100ppm_R0805; 货品编码: 无样品无编码; 备注: *; 供应商: *
footprint R0805 (Footprint not found)
pins: 1, 2

## R0805-110KF
designator R?, comment 110KF
贴片电阻-通用; 生产商: 厚声 国巨; 规格型号: 110K±1%_1/8W_±100ppm_R0805; 货品编码: 无样品无编码; 备注: *; 供应商: *
footprint R0805 (Footprint not found)
pins: 1, 2

## R0805-110R
designator R?, comment 110R
贴片电阻-通用; 生产商: 厚声 国巨; 规格型号: 110R±5%_1/8W_±100ppm_R0805; 货品编码: 无样品无编码; 备注: *; 供应商: *
footprint R0805 (Footprint not found)
pins: 1, 2

## R0805-110RF
designator R?, comment 110RF
贴片电阻-通用; 生产商: 厚声 国巨; 规格型号: 110R±1%_1/8W_±100ppm_R0805; 货品编码: 无样品无编码; 备注: *; 供应商: *
footprint R0805 (Footprint not found)
pins: 1, 2

## R0805-120K
designator R?, comment 120K
贴片电阻-通用; 生产商: 厚声 国巨; 规格型号: 120K±5%_1/8W_±100ppm_R0805; 货品编码: 无样品无编码; 备注: *; 供应商: *
footprint R0805 (Footprint not found)
pins: 1, 2

## R0805-120KF
designator R?, comment 120KF
贴片电阻-通用; 生产商: 厚声 国巨; 规格型号: 120K±1%_1/8W_±100ppm_R0805; 货品编码: 311131; 备注: *; 供应商: *
footprint R0805 (Footprint not found)
pins: 1, 2

## R0805-120R
designator R?, comment 120R
贴片电阻-通用; 生产商: 厚声 国巨; 规格型号: 120R±5%_1/8W_±100ppm_R0805; 货品编码: 311013; 备注: *; 供应商: *
footprint R0805 (Footprint not found)
pins: 1, 2

## R0805-120RF
designator R?, comment 120RF
贴片电阻-通用; 生产商: 厚声 国巨; 规格型号: 120R±1%_1/8W_±100ppm_R0805; 货品编码: 311125; 备注: *; 供应商: *
footprint R0805 (Footprint not found)
pins: 1, 2

## R0805-130K
designator R?, comment 130K
贴片电阻-通用; 生产商: 厚声 国巨; 规格型号: 130K±5%_1/8W_±100ppm_R0805; 货品编码: 无样品无编码; 备注: *; 供应商: *
footprint R0805 (Footprint not found)
pins: 1, 2

## R0805-130KF
designator R?, comment 130KF
贴片电阻-通用; 生产商: 厚声 国巨; 规格型号: 130K±1%_1/8W_±100ppm_R0805; 货品编码: 无样品无编码; 备注: *; 供应商: *
footprint R0805 (Footprint not found)
pins: 1, 2

## R0805-130R
designator R?, comment 130R
贴片电阻-通用; 生产商: 厚声 国巨; 规格型号: 130R±5%_1/8W_±100ppm_R0805; 货品编码: 无样品无编码; 备注: *; 供应商: *
footprint R0805 (Footprint not found)
pins: 1, 2

## R0805-130RF
designator R?, comment 130RF
贴片电阻-通用; 生产商: 厚声 国巨; 规格型号: 130R±1%_1/8W_±100ppm_R0805; 货品编码: 无样品无编码; 备注: *; 供应商: *
footprint R0805 (Footprint not found)
pins: 1, 2

## R0805-150K
designator R?, comment 150K
贴片电阻-通用; 生产商: 厚声 国巨; 规格型号: 150K±5%_1/8W_±100ppm_R0805; 货品编码: 无样品无编码; 备注: *; 供应商: *
footprint R0805 (Footprint not found)
pins: 1, 2

## R0805-150KF
designator R?, comment 150KF
贴片电阻-通用; 生产商: 厚声 国巨; 规格型号: 150K±1%_1/8W_±100ppm_R0805; 货品编码: 311154; 备注: *; 供应商: *
footprint R0805 (Footprint not found)
pins: 1, 2

## R0805-150R
designator R?, comment 150R
贴片电阻-通用; 生产商: 厚声 国巨; 规格型号: 150R±5%_1/8W_±100ppm_R0805; 货品编码: 无样品无编码; 备注: *; 供应商: *
footprint R0805 (Footprint not found)
pins: 1, 2

## R0805-150RF
designator R?, comment 150RF
贴片电阻-通用; 生产商: 厚声 国巨; 规格型号: 150R±1%_1/8W_±100ppm_R0805; 货品编码: 无样品无编码; 备注: *; 供应商: *
footprint R0805 (Footprint not found)
pins: 1, 2

## R0805-160K
designator R?, comment 160K
贴片电阻-通用; 生产商: 厚声 国巨; 规格型号: 160K±5%_1/8W_±100ppm_R0805; 货品编码: 无样品无编码; 备注: *; 供应商: *
footprint R0805 (Footprint not found)
pins: 1, 2

## R0805-160KF
designator R?, comment 160KF
贴片电阻-通用; 生产商: 厚声 国巨; 规格型号: 160K±1%_1/8W_±100ppm_R0805; 货品编码: 无样品无编码; 备注: *; 供应商: *
footprint R0805 (Footprint not found)
pins: 1, 2

## R0805-160R
designator R?, comment 160R
贴片电阻-通用; 生产商: 厚声 国巨; 规格型号: 160R±5%_1/8W_±100ppm_R0805; 货品编码: 无样品无编码; 备注: *; 供应商: *
footprint R0805 (Footprint not found)
pins: 1, 2

## R0805-160RF
designator R?, comment 160RF
贴片电阻-通用; 生产商: 厚声 国巨; 规格型号: 160R±1%_1/8W_±100ppm_R0805; 货品编码: 无样品无编码; 备注: *; 供应商: *
footprint R0805 (Footprint not found)
pins: 1, 2

## R0805-180K
designator R?, comment 180K
贴片电阻-通用; 生产商: 厚声 国巨; 规格型号: 180K±5%_1/8W_±100ppm_R0805; 货品编码: 无样品无编码; 备注: *; 供应商: *
footprint R0805 (Footprint not found)
pins: 1, 2

## R0805-180KF
designator R?, comment 180KF
贴片电阻-通用; 生产商: 厚声 国巨; 规格型号: 180K±1%_1/8W_±100ppm_R0805; 货品编码: 无样品无编码; 备注: *; 供应商: *
footprint R0805 (Footprint not found)
pins: 1, 2

## R0805-180R
designator R?, comment 180R
贴片电阻-通用; 生产商: 厚声 国巨; 规格型号: 180R±5%_1/8W_±100ppm_R0805; 货品编码: 311011; 备注: *; 供应商: *
footprint R0805 (Footprint not found)
pins: 1, 2

## R0805-180RF
designator R?, comment 180RF
贴片电阻-通用; 生产商: 厚声 国巨; 规格型号: 180R±1%_1/8W_±100ppm_R0805; 货品编码: 311129; 备注: *; 供应商: *
footprint R0805 (Footprint not found)
pins: 1, 2

## R0805-200K
designator R?, comment 200K
贴片电阻-通用; 生产商: 厚声 国巨; 规格型号: 200K±5%_1/8W_±100ppm_R0805; 货品编码: 无样品无编码; 备注: *; 供应商: *
footprint R0805 (Footprint not found)
pins: 1, 2

## R0805-200KF
designator R?, comment 200KF
贴片电阻-通用; 生产商: 厚声 国巨; 规格型号: 200K±1%_1/8W_±100ppm_R0805; 货品编码: 311132; 备注: *; 供应商: *
footprint R0805 (Footprint not found)
pins: 1, 2

## R0805-200R
designator R?, comment 200R
贴片电阻-通用; 生产商: 厚声 国巨; 规格型号: 200R±5%_1/8W_±100ppm_R0805; 货品编码: 311014; 备注: *; 供应商: *
footprint R0805 (Footprint not found)
pins: 1, 2

## R0805-200RF
designator R?, comment 200RF
贴片电阻-通用; 生产商: 厚声 国巨; 规格型号: 200R±1%_1/8W_±100ppm_R0805; 货品编码: 311116; 备注: *; 供应商: *
footprint R0805 (Footprint not found)
pins: 1, 2

## R0805-220K
designator R?, comment 220K
贴片电阻-通用; 生产商: 厚声 国巨; 规格型号: 220K±5%_1/8W_±100ppm_R0805; 货品编码: 无样品无编码; 备注: *; 供应商: *
footprint R0805 (Footprint not found)
pins: 1, 2

## R0805-220KF
designator R?, comment 220KF
贴片电阻-通用; 生产商: 厚声 国巨; 规格型号: 220K±1%_1/8W_±100ppm_R0805; 货品编码: 311157; 备注: *; 供应商: *
footprint R0805 (Footprint not found)
pins: 1, 2

## R0805-220R
designator R?, comment 220R
贴片电阻-通用; 生产商: 厚声 国巨; 规格型号: 220R±5%_1/8W_±100ppm_R0805; 货品编码: 311120; 备注: *; 供应商: *
footprint R0805 (Footprint not found)
pins: 1, 2

## R0805-220RF
designator R?, comment 220RF
贴片电阻-通用; 生产商: 厚声 国巨; 规格型号: 220R±1%_1/8W_±100ppm_R0805; 货品编码: 311130; 备注: *; 供应商: *
footprint R0805 (Footprint not found)
pins: 1, 2

## R0805-240K
designator R?, comment 240K
贴片电阻-通用; 生产商: 厚声 国巨; 规格型号: 240K±5%_1/8W_±100ppm_R0805; 货品编码: 无样品无编码; 备注: *; 供应商: *
footprint R0805 (Footprint not found)
pins: 1, 2

## R0805-240KF
designator R?, comment 240KF
贴片电阻-通用; 生产商: 厚声 国巨; 规格型号: 240K±1%_1/8W_±100ppm_R0805; 货品编码: 无样品无编码; 备注: *; 供应商: *
footprint R0805 (Footprint not found)
pins: 1, 2

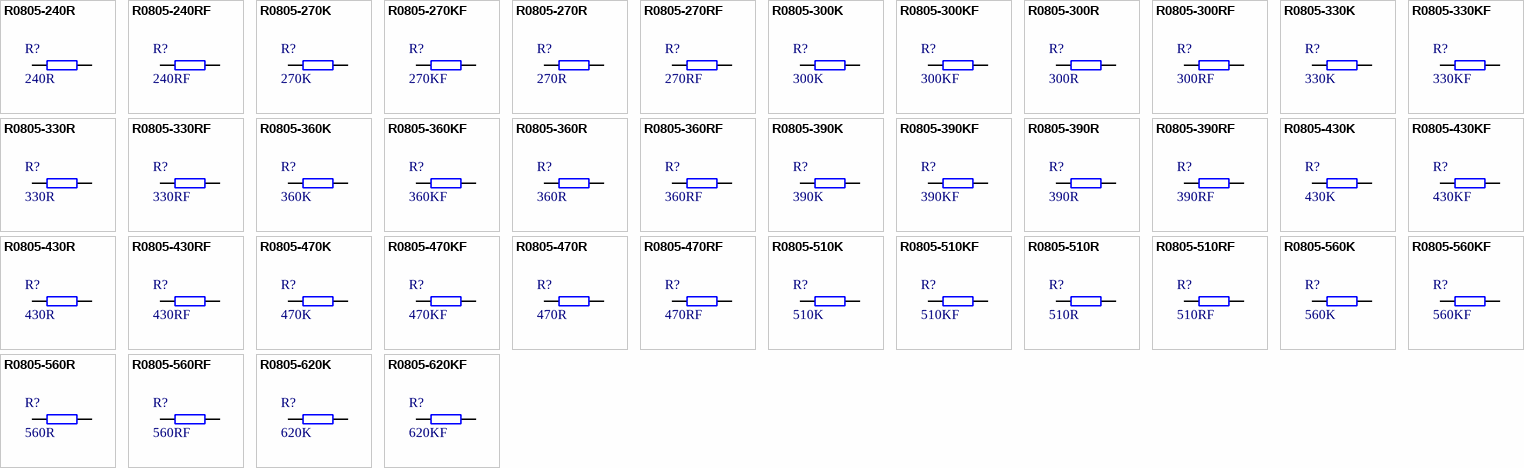
[diagram p11: symbols R0805-240R to R0805-620KF]

## R0805-240R
designator R?, comment 240R
贴片电阻-通用; 生产商: 厚声 国巨; 规格型号: 240R±5%_1/8W_±100ppm_R0805; 货品编码: 无样品无编码; 备注: *; 供应商: *
footprint R0805 (Footprint not found)
pins: 1, 2

## R0805-240RF
designator R?, comment 240RF
贴片电阻-通用; 生产商: 厚声 国巨; 规格型号: 240R±1%_1/8W_±100ppm_R0805; 货品编码: 无样品无编码; 备注: *; 供应商: *
footprint R0805 (Footprint not found)
pins: 1, 2

## R0805-270K
designator R?, comment 270K
贴片电阻-通用; 生产商: 厚声 国巨; 规格型号: 270K±5%_1/8W_±100ppm_R0805; 货品编码: 无样品无编码; 备注: *; 供应商: *
footprint R0805 (Footprint not found)
pins: 1, 2

## R0805-270KF
designator R?, comment 270KF
贴片电阻-通用; 生产商: 厚声 国巨; 规格型号: 270K±1%_1/8W_±100ppm_R0805; 货品编码: 无样品无编码; 备注: *; 供应商: *
footprint R0805 (Footprint not found)
pins: 1, 2

## R0805-270R
designator R?, comment 270R
贴片电阻-通用; 生产商: 厚声 国巨; 规格型号: 270R±5%_1/8W_±100ppm_R0805; 货品编码: 311016; 备注: *; 供应商: *
footprint R0805 (Footprint not found)
pins: 1, 2

## R0805-270RF
designator R?, comment 270RF
贴片电阻-通用; 生产商: 厚声 国巨; 规格型号: 270R±1%_1/8W_±100ppm_R0805; 货品编码: 无样品无编码; 备注: *; 供应商: *
footprint R0805 (Footprint not found)
pins: 1, 2

## R0805-300K
designator R?, comment 300K
贴片电阻-通用; 生产商: 厚声 国巨; 规格型号: 300K±5%_1/8W_±100ppm_R0805; 货品编码: 无样品无编码; 备注: *; 供应商: *
footprint R0805 (Footprint not found)
pins: 1, 2

## R0805-300KF
designator R?, comment 300KF
贴片电阻-通用; 生产商: 厚声 国巨; 规格型号: 300K±1%_1/8W_±100ppm_R0805; 货品编码: 311123; 备注: *; 供应商: *
footprint R0805 (Footprint not found)
pins: 1, 2

## R0805-300R
designator R?, comment 300R
贴片电阻-通用; 生产商: 厚声 国巨; 规格型号: 300R±5%_1/8W_±100ppm_R0805; 货品编码: 无样品无编码; 备注: *; 供应商: *
footprint R0805 (Footprint not found)
pins: 1, 2

## R0805-300RF
designator R?, comment 300RF
贴片电阻-通用; 生产商: 厚声 国巨; 规格型号: 300R±1%_1/8W_±100ppm_R0805; 货品编码: 311056; 备注: *; 供应商: *
footprint R0805 (Footprint not found)
pins: 1, 2

## R0805-330K
designator R?, comment 330K
贴片电阻-通用; 生产商: 厚声 国巨; 规格型号: 330K±5%_1/8W_±100ppm_R0805; 货品编码: 无样品无编码; 备注: *; 供应商: *
footprint R0805 (Footprint not found)
pins: 1, 2

## R0805-330KF
designator R?, comment 330KF
贴片电阻-通用; 生产商: 厚声 国巨; 规格型号: 330K±1%_1/8W_±100ppm_R0805; 货品编码: 311111; 备注: *; 供应商: *
footprint R0805 (Footprint not found)
pins: 1, 2

## R0805-330R
designator R?, comment 330R
贴片电阻-通用; 生产商: 厚声 国巨; 规格型号: 330R±5%_1/8W_±100ppm_R0805; 货品编码: 311017; 备注: *; 供应商: *
footprint R0805 (Footprint not found)
pins: 1, 2

## R0805-330RF
designator R?, comment 330RF
贴片电阻-通用; 生产商: 厚声 国巨; 规格型号: 330R±1%_1/8W_±100ppm_R0805; 货品编码: 311052; 备注: *; 供应商: *
footprint R0805 (Footprint not found)
pins: 1, 2

## R0805-360K
designator R?, comment 360K
贴片电阻-通用; 生产商: 厚声 国巨; 规格型号: 360K±5%_1/8W_±100ppm_R0805; 货品编码: 无样品无编码; 备注: *; 供应商: *
footprint R0805 (Footprint not found)
pins: 1, 2

## R0805-360KF
designator R?, comment 360KF
贴片电阻-通用; 生产商: 厚声 国巨; 规格型号: 360K±1%_1/8W_±100ppm_R0805; 货品编码: 无样品无编码; 备注: *; 供应商: *
footprint R0805 (Footprint not found)
pins: 1, 2

## R0805-360R
designator R?, comment 360R
贴片电阻-通用; 生产商: 厚声 国巨; 规格型号: 360R±5%_1/8W_±100ppm_R0805; 货品编码: 无样品无编码; 备注: *; 供应商: *
footprint R0805 (Footprint not found)
pins: 1, 2

## R0805-360RF
designator R?, comment 360RF
贴片电阻-通用; 生产商: 厚声 国巨; 规格型号: 360R±1%_1/8W_±100ppm_R0805; 货品编码: 无样品无编码; 备注: *; 供应商: *
footprint R0805 (Footprint not found)
pins: 1, 2

## R0805-390K
designator R?, comment 390K
贴片电阻-通用; 生产商: 厚声 国巨; 规格型号: 390K±5%_1/8W_±100ppm_R0805; 货品编码: 无样品无编码; 备注: *; 供应商: *
footprint R0805 (Footprint not found)
pins: 1, 2

## R0805-390KF
designator R?, comment 390KF
贴片电阻-通用; 生产商: 厚声 国巨; 规格型号: 390K±1%_1/8W_±100ppm_R0805; 货品编码: 无样品无编码; 备注: *; 供应商: *
footprint R0805 (Footprint not found)
pins: 1, 2

## R0805-390R
designator R?, comment 390R
贴片电阻-通用; 生产商: 厚声 国巨; 规格型号: 390R±5%_1/8W_±100ppm_R0805; 货品编码: 无样品无编码; 备注: *; 供应商: *
footprint R0805 (Footprint not found)
pins: 1, 2

## R0805-390RF
designator R?, comment 390RF
贴片电阻-通用; 生产商: 厚声 国巨; 规格型号: 390R±1%_1/8W_±100ppm_R0805; 货品编码: 311057; 备注: *; 供应商: *
footprint R0805 (Footprint not found)
pins: 1, 2

## R0805-430K
designator R?, comment 430K
贴片电阻-通用; 生产商: 厚声 国巨; 规格型号: 430K±5%_1/8W_±100ppm_R0805; 货品编码: 无样品无编码; 备注: *; 供应商: *
footprint R0805 (Footprint not found)
pins: 1, 2

## R0805-430KF
designator R?, comment 430KF
贴片电阻-通用; 生产商: 厚声 国巨; 规格型号: 430K±1%_1/8W_±100ppm_R0805; 货品编码: 无样品无编码; 备注: *; 供应商: *
footprint R0805 (Footprint not found)
pins: 1, 2

## R0805-430R
designator R?, comment 430R
贴片电阻-通用; 生产商: 厚声 国巨; 规格型号: 430R±5%_1/8W_±100ppm_R0805; 货品编码: 无样品无编码; 备注: *; 供应商: *
footprint R0805 (Footprint not found)
pins: 1, 2

## R0805-430RF
designator R?, comment 430RF
贴片电阻-通用; 生产商: 厚声 国巨; 规格型号: 430R±1%_1/8W_±100ppm_R0805; 货品编码: 无样品无编码; 备注: *; 供应商: *
footprint R0805 (Footprint not found)
pins: 1, 2

## R0805-470K
designator R?, comment 470K
贴片电阻-通用; 生产商: 厚声 国巨; 规格型号: 470K±5%_1/8W_±100ppm_R0805; 货品编码: 无样品无编码; 备注: *; 供应商: *
footprint R0805 (Footprint not found)
pins: 1, 2

## R0805-470KF
designator R?, comment 470KF
贴片电阻-通用; 生产商: 厚声 国巨; 规格型号: 470K±1%_1/8W_±100ppm_R0805; 货品编码: 311143; 备注: *; 供应商: *
footprint R0805 (Footprint not found)
pins: 1, 2

## R0805-470R
designator R?, comment 470R
贴片电阻-通用; 生产商: 厚声 国巨; 规格型号: 470R±5%_1/8W_±100ppm_R0805; 货品编码: 311018; 备注: *; 供应商: *
footprint R0805 (Footprint not found)
pins: 1, 2

## R0805-470RF
designator R?, comment 470RF
贴片电阻-通用; 生产商: 厚声 国巨; 规格型号: 470R±1%_1/8W_±100ppm_R0805; 货品编码: 311079; 备注: *; 供应商: *
footprint R0805 (Footprint not found)
pins: 1, 2

## R0805-510K
designator R?, comment 510K
贴片电阻-通用; 生产商: 厚声 国巨; 规格型号: 510K±5%_1/8W_±100ppm_R0805; 货品编码: 无样品无编码; 备注: *; 供应商: *
footprint R0805 (Footprint not found)
pins: 1, 2

## R0805-510KF
designator R?, comment 510KF
贴片电阻-通用; 生产商: 厚声 国巨; 规格型号: 510K±1%_1/8W_±100ppm_R0805; 货品编码: 311159; 备注: *; 供应商: *
footprint R0805 (Footprint not found)
pins: 1, 2

## R0805-510R
designator R?, comment 510R
贴片电阻-通用; 生产商: 厚声 国巨; 规格型号: 510R±5%_1/8W_±100ppm_R0805; 货品编码: 311019; 备注: *; 供应商: *
footprint R0805 (Footprint not found)
pins: 1, 2

## R0805-510RF
designator R?, comment 510RF
贴片电阻-通用; 生产商: 厚声 国巨; 规格型号: 510R±1%_1/8W_±100ppm_R0805; 货品编码: 311147; 备注: *; 供应商: *
footprint R0805 (Footprint not found)
pins: 1, 2

## R0805-560K
designator R?, comment 560K
贴片电阻-通用; 生产商: 厚声 国巨; 规格型号: 560K±5%_1/8W_±100ppm_R0805; 货品编码: 无样品无编码; 备注: *; 供应商: *
footprint R0805 (Footprint not found)
pins: 1, 2

## R0805-560KF
designator R?, comment 560KF
贴片电阻-通用; 生产商: 厚声 国巨; 规格型号: 560K±1%_1/8W_±100ppm_R0805; 货品编码: 无样品无编码; 备注: *; 供应商: *
footprint R0805 (Footprint not found)
pins: 1, 2

## R0805-560R
designator R?, comment 560R
贴片电阻-通用; 生产商: 厚声 国巨; 规格型号: 560R±5%_1/8W_±100ppm_R0805; 货品编码: 无样品无编码; 备注: *; 供应商: *
footprint R0805 (Footprint not found)
pins: 1, 2

## R0805-560RF
designator R?, comment 560RF
贴片电阻-通用; 生产商: 厚声 国巨; 规格型号: 560R±1%_1/8W_±100ppm_R0805; 货品编码: 无样品无编码; 备注: *; 供应商: *
footprint R0805 (Footprint not found)
pins: 1, 2

## R0805-620K
designator R?, comment 620K
贴片电阻-通用; 生产商: 厚声 国巨; 规格型号: 620K±5%_1/8W_±100ppm_R0805; 货品编码: 无样品无编码; 备注: *; 供应商: *
footprint R0805 (Footprint not found)
pins: 1, 2

## R0805-620KF
designator R?, comment 620KF
贴片电阻-通用; 生产商: 厚声 国巨; 规格型号: 620K±1%_1/8W_±100ppm_R0805; 货品编码: 无样品无编码; 备注: *; 供应商: *
footprint R0805 (Footprint not found)
pins: 1, 2

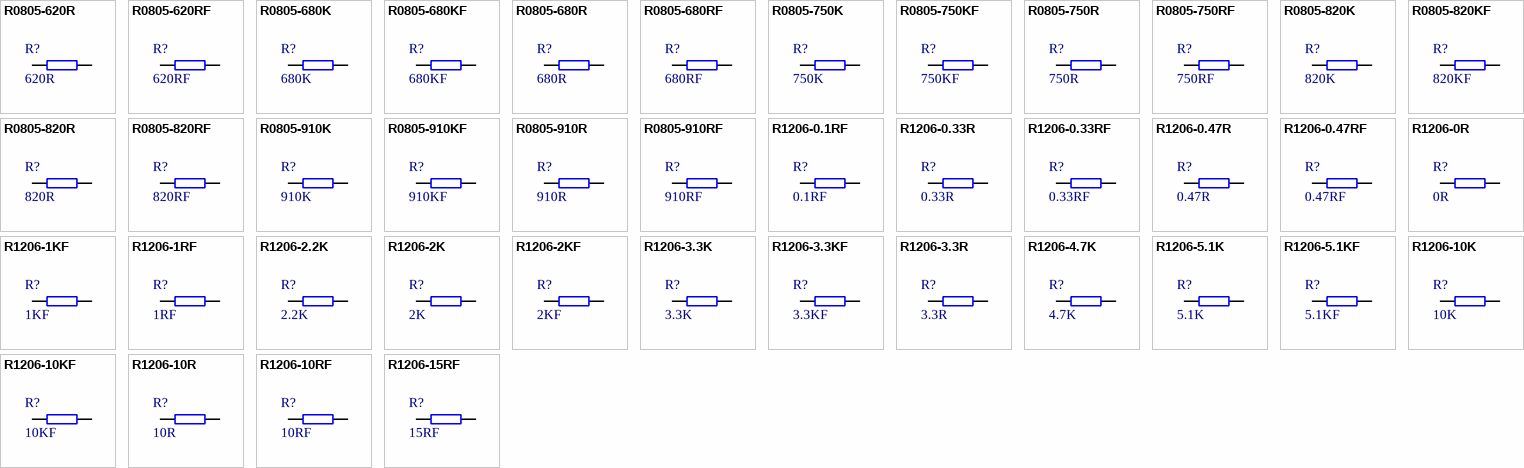
[diagram p12: symbols R0805-620R to R1206-15RF]

## R0805-620R
designator R?, comment 620R
贴片电阻-通用; 生产商: 厚声 国巨; 规格型号: 620R±5%_1/8W_±100ppm_R0805; 货品编码: 无样品无编码; 备注: *; 供应商: *
footprint R0805 (Footprint not found)
pins: 1, 2

## R0805-620RF
designator R?, comment 620RF
贴片电阻-通用; 生产商: 厚声 国巨; 规格型号: 620R±1%_1/8W_±100ppm_R0805; 货品编码: 无样品无编码; 备注: *; 供应商: *
footprint R0805 (Footprint not found)
pins: 1, 2

## R0805-680K
designator R?, comment 680K
贴片电阻-通用; 生产商: 厚声 国巨; 规格型号: 680K±5%_1/8W_±100ppm_R0805; 货品编码: 311041; 备注: *; 供应商: *
footprint R0805 (Footprint not found)
pins: 1, 2

## R0805-680KF
designator R?, comment 680KF
贴片电阻-通用; 生产商: 厚声 国巨; 规格型号: 680K±1%_1/8W_±100ppm_R0805; 货品编码: 311054; 备注: *; 供应商: *
footprint R0805 (Footprint not found)
pins: 1, 2

## R0805-680R
designator R?, comment 680R
贴片电阻-通用; 生产商: 厚声 国巨; 规格型号: 680R±5%_1/8W_±100ppm_R0805; 货品编码: 311020; 备注: *; 供应商: *
footprint R0805 (Footprint not found)
pins: 1, 2

## R0805-680RF
designator R?, comment 680RF
贴片电阻-通用; 生产商: 厚声 国巨; 规格型号: 680R±1%_1/8W_±100ppm_R0805; 货品编码: 311162; 备注: *; 供应商: *
footprint R0805 (Footprint not found)
pins: 1, 2

## R0805-750K
designator R?, comment 750K
贴片电阻-通用; 生产商: 厚声 国巨; 规格型号: 750K±5%_1/8W_±100ppm_R0805; 货品编码: 无样品无编码; 备注: *; 供应商: *
footprint R0805 (Footprint not found)
pins: 1, 2

## R0805-750KF
designator R?, comment 750KF
贴片电阻-通用; 生产商: 厚声 国巨; 规格型号: 750K±1%_1/8W_±100ppm_R0805; 货品编码: 无样品无编码; 备注: *; 供应商: *
footprint R0805 (Footprint not found)
pins: 1, 2

## R0805-750R
designator R?, comment 750R
贴片电阻-通用; 生产商: 厚声 国巨; 规格型号: 750R±5%_1/8W_±100ppm_R0805; 货品编码: 无样品无编码; 备注: *; 供应商: *
footprint R0805 (Footprint not found)
pins: 1, 2

## R0805-750RF
designator R?, comment 750RF
贴片电阻-通用; 生产商: 厚声 国巨; 规格型号: 750R±1%_1/8W_±100ppm_R0805; 货品编码: 无样品无编码; 备注: *; 供应商: *
footprint R0805 (Footprint not found)
pins: 1, 2

## R0805-820K
designator R?, comment 820K
贴片电阻-通用; 生产商: 厚声 国巨; 规格型号: 820K±5%_1/8W_±100ppm_R0805; 货品编码: 无样品无编码; 备注: *; 供应商: *
footprint R0805 (Footprint not found)
pins: 1, 2

## R0805-820KF
designator R?, comment 820KF
贴片电阻-通用; 生产商: 厚声 国巨; 规格型号: 820K±1%_1/8W_±100ppm_R0805; 货品编码: 无样品无编码; 备注: *; 供应商: *
footprint R0805 (Footprint not found)
pins: 1, 2

## R0805-820R
designator R?, comment 820R
贴片电阻-通用; 生产商: 厚声 国巨; 规格型号: 820R±5%_1/8W_±100ppm_R0805; 货品编码: 无样品无编码; 备注: *; 供应商: *
footprint R0805 (Footprint not found)
pins: 1, 2

## R0805-820RF
designator R?, comment 820RF
贴片电阻-通用; 生产商: 厚声 国巨; 规格型号: 820R±1%_1/8W_±100ppm_R0805; 货品编码: 无样品无编码; 备注: *; 供应商: *
footprint R0805 (Footprint not found)
pins: 1, 2

## R0805-910K
designator R?, comment 910K
贴片电阻-通用; 生产商: 厚声 国巨; 规格型号: 910K±5%_1/8W_±100ppm_R0805; 货品编码: 无样品无编码; 备注: *; 供应商: *
footprint R0805 (Footprint not found)
pins: 1, 2

## R0805-910KF
designator R?, comment 910KF
贴片电阻-通用; 生产商: 厚声 国巨; 规格型号: 910K±1%_1/8W_±100ppm_R0805; 货品编码: 无样品无编码; 备注: *; 供应商: *
footprint R0805 (Footprint not found)
pins: 1, 2

## R0805-910R
designator R?, comment 910R
贴片电阻-通用; 生产商: 厚声 国巨; 规格型号: 910R±5%_1/8W_±100ppm_R0805; 货品编码: 无样品无编码; 备注: *; 供应商: *
footprint R0805 (Footprint not found)
pins: 1, 2

## R0805-910RF
designator R?, comment 910RF
贴片电阻-通用; 生产商: 厚声 国巨; 规格型号: 910R±1%_1/8W_±100ppm_R0805; 货品编码: 无样品无编码; 备注: *; 供应商: *
footprint R0805 (Footprint not found)
pins: 1, 2

## R1206-0.1RF
designator R?, comment 0.1RF
贴片电阻-通用; 生产商: 厚声 国巨; 规格型号: 0.1R±1%_1/4W_±200ppm_R1206; 货品编码: 311146; 备注: *; 供应商: *
footprint R1206
pins: 1, 2

## R1206-0.33R
designator R?, comment 0.33R
贴片电阻-通用; 生产商: 厚声 国巨; 规格型号: 0.33R±5%_1/4W_±200ppm_R1206; 货品编码: 311075; 备注: *; 供应商: *
footprint R1206
pins: 1, 2

## R1206-0.33RF
designator R?, comment 0.33RF
贴片电阻-通用; 生产商: 厚声 国巨; 规格型号: 0.33R±1%_1/4W_±200ppm_R1206; 货品编码: 311133; 备注: *; 供应商: *
footprint R1206
pins: 1, 2

## R1206-0.47R
designator R?, comment 0.47R
贴片电阻-通用; 生产商: 厚声 国巨; 规格型号: 0.47R±5%_1/4W_±200ppm_R1206; 货品编码: 311076; 备注: *; 供应商: *
footprint R1206
pins: 1, 2

## R1206-0.47RF
designator R?, comment 0.47RF
贴片电阻-通用; 生产商: 厚声 国巨; 规格型号: 0.47R±1%_1/4W_±200ppm_R1206; 货品编码: 311134; 备注: *; 供应商: *
footprint R1206
pins: 1, 2

## R1206-0R
designator R?, comment 0R
贴片电阻-通用; 生产商: 厚声 国巨; 规格型号: R±5%_1/4W_±200ppm_R1206; 货品编码: 311069; 备注: *; 供应商: *
footprint R1206
pins: 1, 2

## R1206-1KF
designator R?, comment 1KF
贴片电阻-通用; 生产商: 厚声 国巨; 规格型号: 1K±1%_1/4W_±100ppm_R1206; 货品编码: 311060; 备注: *; 供应商: *
footprint R1206
pins: 1, 2

## R1206-1RF
designator R?, comment 1RF
贴片电阻-通用; 生产商: 厚声 国巨; 规格型号: 1R±1%_1/4W_±200ppm_R1206; 货品编码: 311115; 备注: *; 供应商: *
footprint R1206
pins: 1, 2

## R1206-2.2K
designator R?, comment 2.2K
贴片电阻-通用; 生产商: 厚声 国巨; 规格型号: 2.2K±5%_1/4W_±100ppm_R1206; 货品编码: 311012; 备注: *; 供应商: *
footprint R1206
pins: 1, 2

## R1206-2K
designator R?, comment 2K
贴片电阻-通用; 生产商: 厚声 国巨; 规格型号: 2K±5%_1/4W_±100ppm_R1206; 货品编码: 311061; 备注: *; 供应商: *
footprint R1206
pins: 1, 2

## R1206-2KF
designator R?, comment 2KF
贴片电阻-通用; 生产商: 厚声 国巨; 规格型号: 2K±1%_1/4W_±100ppm_R1206; 货品编码: 311121; 备注: *; 供应商: *
footprint R1206
pins: 1, 2

## R1206-3.3K
designator R?, comment 3.3K
贴片电阻-通用; 生产商: 厚声 国巨; 规格型号: 3.3K±5%_1/4W_±100ppm_R1206; 货品编码: 311118; 备注: *; 供应商: *
footprint R1206
pins: 1, 2

## R1206-3.3KF
designator R?, comment 3.3KF
贴片电阻-通用; 生产商: 厚声 国巨; 规格型号: 3.3K±1%_1/4W_±100ppm_R1206; 货品编码: 311094; 备注: *; 供应商: *
footprint R1206
pins: 1, 2

## R1206-3.3R
designator R?, comment 3.3R
贴片电阻-通用; 生产商: 厚声 国巨; 规格型号: 3.3R±5%_1/4W_±200ppm_R1206; 货品编码: 311119; 备注: *; 供应商: *
footprint R1206
pins: 1, 2

## R1206-4.7K
designator R?, comment 4.7K
贴片电阻-通用; 生产商: 厚声 国巨; 规格型号: 4.7K±5%_1/4W_±100ppm_R1206; 货品编码: 311062; 备注: *; 供应商: *
footprint R1206
pins: 1, 2

## R1206-5.1K
designator R?, comment 5.1K
贴片电阻-通用; 生产商: 厚声 国巨; 规格型号: 5.1K±5%_1/4W_±100ppm_R1206; 货品编码: 311063; 备注: *; 供应商: *
footprint R1206
pins: 1, 2

## R1206-5.1KF
designator R?, comment 5.1KF
贴片电阻-通用; 生产商: 厚声 国巨; 规格型号: 5.1K±1%_1/4W_±100ppm_R1206; 货品编码: 311145; 备注: *; 供应商: *
footprint R1206
pins: 1, 2

## R1206-10K
designator R?, comment 10K
贴片电阻-通用; 生产商: 厚声 国巨; 规格型号: 10K±5%_1/4W_±100ppm_R1206; 货品编码: 311038; 备注: *; 供应商: *
footprint R1206
pins: 1, 2

## R1206-10KF
designator R?, comment 10KF
贴片电阻-通用; 生产商: 厚声 国巨; 规格型号: 10K±1%_1/4W_±100ppm_R1206; 货品编码: 311015; 备注: *; 供应商: *
footprint R1206
pins: 1, 2

## R1206-10R
designator R?, comment 10R
贴片电阻-通用; 生产商: 厚声 国巨; 规格型号: 10R±5%_1/4W_±200ppm_R1206; 货品编码: 311071; 备注: *; 供应商: *
footprint R1206
pins: 1, 2

## R1206-10RF
designator R?, comment 10RF
贴片电阻-通用; 生产商: 厚声 国巨; 规格型号: 10R±1%_1/4W_±200ppm_R1206; 货品编码: 311110; 备注: *; 供应商: *
footprint R1206
pins: 1, 2

## R1206-15RF
designator R?, comment 15RF
贴片电阻-通用; 生产商: 厚声 国巨; 规格型号: 15R±1%_1/4W_±200ppm_R1206; 货品编码: 311106; 备注: *; 供应商: *
footprint R1206
pins: 1, 2

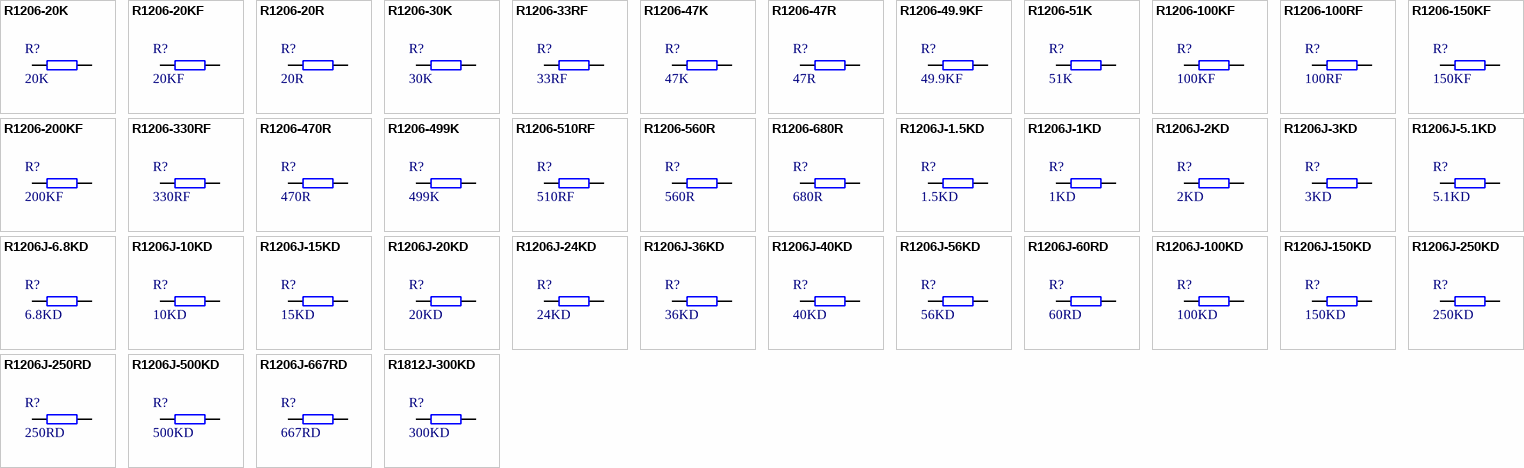
[diagram p13: symbols R1206-20K to R1812J-300KD]

## R1206-20K
designator R?, comment 20K
贴片电阻-通用; 生产商: 厚声 国巨; 规格型号: 20K±5%_1/4W_±100ppm_R1206; 货品编码: 311064; 备注: *; 供应商: *
footprint R1206
pins: 1, 2

## R1206-20KF
designator R?, comment 20KF
贴片电阻-通用; 生产商: 厚声 国巨; 规格型号: 20K±1%_1/4W_±100ppm_R1206; 货品编码: 311065; 备注: *; 供应商: *
footprint R1206
pins: 1, 2

## R1206-20R
designator R?, comment 20R
贴片电阻-通用; 生产商: 厚声 国巨; 规格型号: 20R±5%_1/4W_±100ppm_R1206; 货品编码: 311070; 备注: *; 供应商: *
footprint R1206
pins: 1, 2

## R1206-30K
designator R?, comment 30K
贴片电阻-通用; 生产商: 厚声 国巨; 规格型号: 30K±5%_1/4W_±100ppm_R1206; 货品编码: 311066; 备注: *; 供应商: *
footprint R1206
pins: 1, 2

## R1206-33RF
designator R?, comment 33RF
贴片电阻-通用; 规格型号: 33R±1%_1/4W_±200ppm_R1206; 货品编码: 311148; 生产商: 厚声 国巨; 备注: *; 供应商: *
footprint R1206
pins: 1, 2

## R1206-47K
designator R?, comment 47K
贴片电阻-通用; 生产商: 厚声 国巨; 规格型号: 47K±5%_1/4W_±100ppm_R1206; 货品编码: 311067; 备注: *; 供应商: *
footprint R1206
pins: 1, 2

## R1206-47R
designator R?, comment 47R
贴片电阻-通用; 生产商: 厚声 国巨; 规格型号: 47R±5%_1/4W_±100ppm_R1206; 货品编码: 311072; 备注: *; 供应商: *
footprint R1206
pins: 1, 2

## R1206-49.9KF
designator R?, comment 49.9KF
贴片电阻-通用; 生产商: 厚声 国巨; 规格型号: 49.9K±1%_1/4W_±100ppm_R1206; 货品编码: 311034; 备注: *; 供应商: *
footprint R1206
pins: 1, 2

## R1206-51K
designator R?, comment 51K
贴片电阻-通用; 生产商: 厚声 国巨; 规格型号: 51K±5%_1/4W_±100ppm_R1206; 货品编码: 311101; 备注: *; 供应商: *
footprint R1206
pins: 1, 2

## R1206-100KF
designator R?, comment 100KF
贴片电阻-通用; 生产商: 厚声 国巨; 规格型号: 100K±1%_1/4W_±100ppm_R1206; 货品编码: 311117; 备注: *; 供应商: *
footprint R1206
pins: 1, 2

## R1206-100RF
designator R?, comment 100RF
贴片电阻-通用; 生产商: 厚声 国巨; 规格型号: 100R±1%_1/4W_±100ppm_R1206; 货品编码: 311114; 备注: *; 供应商: *
footprint R1206
pins: 1, 2

## R1206-150KF
designator R?, comment 150KF
贴片电阻-通用; 生产商: 厚声 国巨; 规格型号: 150K±1%_1/4W_±100ppm_R1206; 货品编码: 311128; 备注: *; 供应商: *
footprint R1206
pins: 1, 2

## R1206-200KF
designator R?, comment 200KF
贴片电阻-通用; 生产商: 厚声 国巨; 规格型号: 200K±1%_1/4W_±100ppm_R1206; 货品编码: 311113; 备注: *; 供应商: *
footprint R1206
pins: 1, 2